# Altium schematic symbol library микроконтроллеры.SchLib: 46 symbols
Pins are listed as number, name and electrical type; pins without a type are passive.

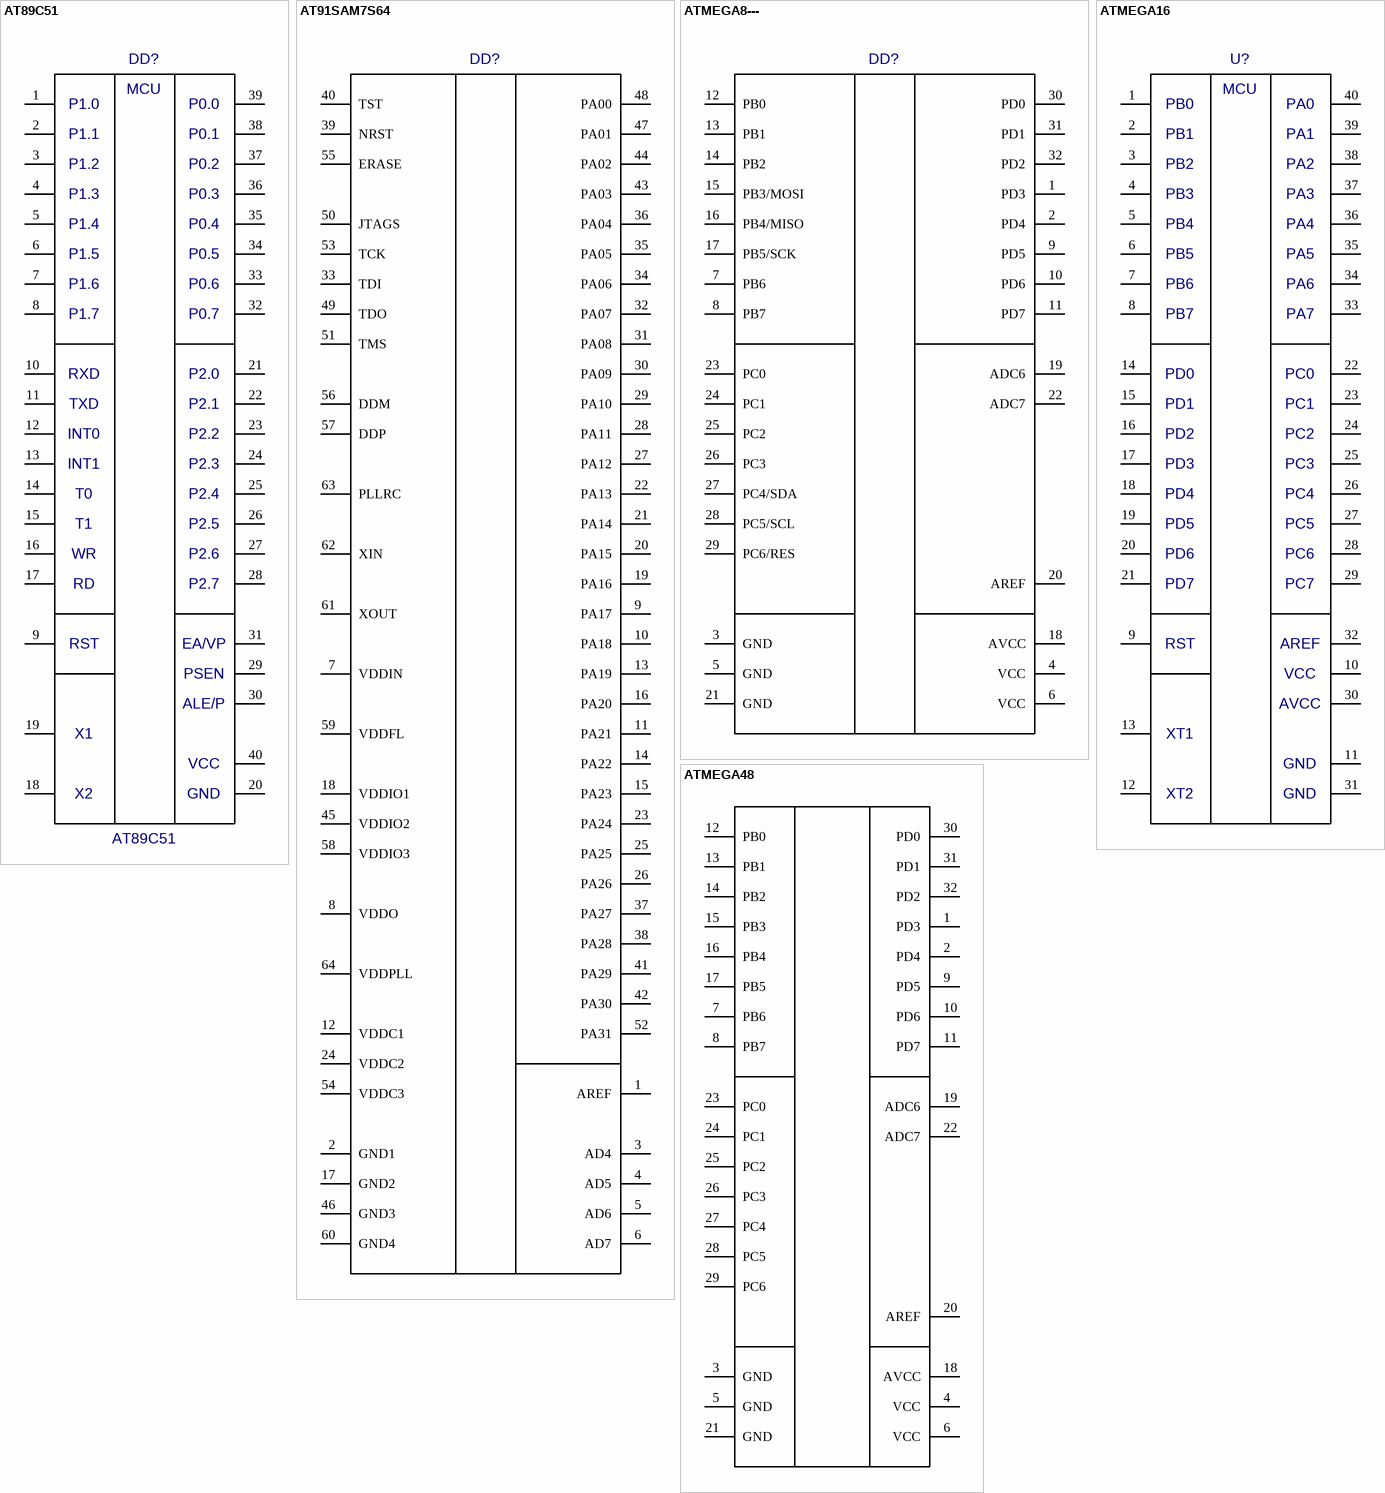
[diagram p0: symbols AT89C51 to ATMEGA48]

## AT89C51
designator DD?
Value: *
footprint DIP40
pins: 1 P1.0, 2 P1.1, 3 P1.2, 4 P1.3, 5 P1.4, 6 P1.5, 7 P1.6, 8 P1.7, 9 RST, 10 RxD, 11 TxD, 12 INT0, 13 INT1, 14 T0, 15 T1, 16 WR, 17 RD, 18 X2, 19 X1, 20 GND (power), 21 P2.0, 22 P2.1, 23 P2.2, 24 P2.3, 25 P2.4, 26 P2.5, 27 P2.6, 28 P2.7, 29 PSEN, 30 ALE, 31 EA/VP, 32 P0.7, 33 P0.6, 34 P0.5, 35 P0.4, 36 P0.3, 37 P0.2, 38 P0.1, 39 P0.0, 40 VCC (power)
text: MCU; RXD; TXD; ALE/P

## AT91SAM7S64
designator DD?  (value not drawn)
Value: *
footprint LQFP64
pins: 1 AREF, 2 GND1, 3 AD4, 4 AD5, 5 AD6, 6 AD7, 7 VDDIN, 8 VDDO, 9 PA17, 10 PA18, 11 PA21, 12 VDDC1, 13 PA19, 14 PA22, 15 PA23, 16 PA20, 17 GND2, 18 VDDIO1, 19 PA16, 20 PA15, 21 PA14, 22 PA13, 23 PA24, 24 VDDC2, 25 PA25, 26 PA26, 27 PA12, 28 PA11, 29 PA10, 30 PA09, 31 PA08, 32 PA07, 33 TDI, 34 PA06, 35 PA05, 36 PA04, 37 PA27, 38 PA28, 39 NRST, 40 TST, 41 PA29, 42 PA30, 43 PA03, 44 PA02, 45 VDDIO2, 46 GND3, 47 PA01, 48 PA00, 49 TDO, 50 JTAGS, 51 TMS, 52 PA31, 53 TCK, 54 VDDC3, 55 ERASE, 56 DDM, 57 DDP, 58 VDDIO3, 59 VDDFL, 60 GND4, 61 XOUT, 62 XIN, 63 PLLRC, 64 VDDPLL

## ATMEGA8---
designator DD?  (value not drawn)
Value: {Value}
footprint LQFP32-MEGA-STM
pins: 1 PD3, 2 PD4, 3 GND, 4 VCC, 5 GND, 6 VCC, 7 PB6, 8 PB7, 9 PD5, 10 PD6, 11 PD7, 12 PB0, 13 PB1, 14 PB2, 15 PB3/MOSI, 16 PB4/MISO, 17 PB5/SCK, 18 AVCC, 19 ADC6, 20 AREF, 21 GND, 22 ADC7, 23 PC0, 24 PC1, 25 PC2, 26 PC3, 27 PC4/SDA, 28 PC5/SCL, 29 PC6/RES, 30 PD0, 31 PD1, 32 PD2

## ATMEGA16
designator U?  (value not drawn)
Value: *
footprint DIP40
pins: 1 P1.0, 2 P1.1, 3 P1.2, 4 P1.3, 5 P1.4, 6 P1.5, 7 P1.6, 8 P1.7, 9 RST, 10 PSEN, 11 VCC, 12 X2, 13 X1, 14 T0, 15 T1, 16 WR, 17 RD, 18 RxD, 19 TxD, 20 INT0, 21 INT1, 22 P2.1, 23 P2.2, 24 P2.3, 25 P2.4, 26 P2.5, 27 P2.6, 28 P2.7, 29 P2.0, 30 ALE, 31 GND, 32 EA/VP, 33 P0.6, 34 P0.7, 35 P0.5, 36 P0.4, 37 P0.3, 38 P0.2, 39 P0.1, 40 P0.0
text: MCU; PB0; PA0; PB1; PA1; PB2; PA2; PB3; PA3; PB4; PA4; PB5; PA5; PB6; PA6; PB7; PA7; PD0; PC0; PD1; PC1; PD2; PC2; PD3; PC3; PD4; PC4; PD5; PC5; PD6; PC6; PD7; PC7; AREF; AVCC; XT1; XT2

## ATMEGA48
designator DD?  (value not drawn)
Value: *
footprint 32A
pins: 1 PD3, 2 PD4, 3 GND, 4 VCC, 5 GND, 6 VCC, 7 PB6, 8 PB7, 9 PD5, 10 PD6, 11 PD7, 12 PB0, 13 PB1, 14 PB2, 15 PB3, 16 PB4, 17 PB5, 18 AVCC, 19 ADC6, 20 AREF, 21 GND, 22 ADC7, 23 PC0, 24 PC1, 25 PC2, 26 PC3, 27 PC4, 28 PC5, 29 PC6, 30 PD0, 31 PD1, 32 PD2

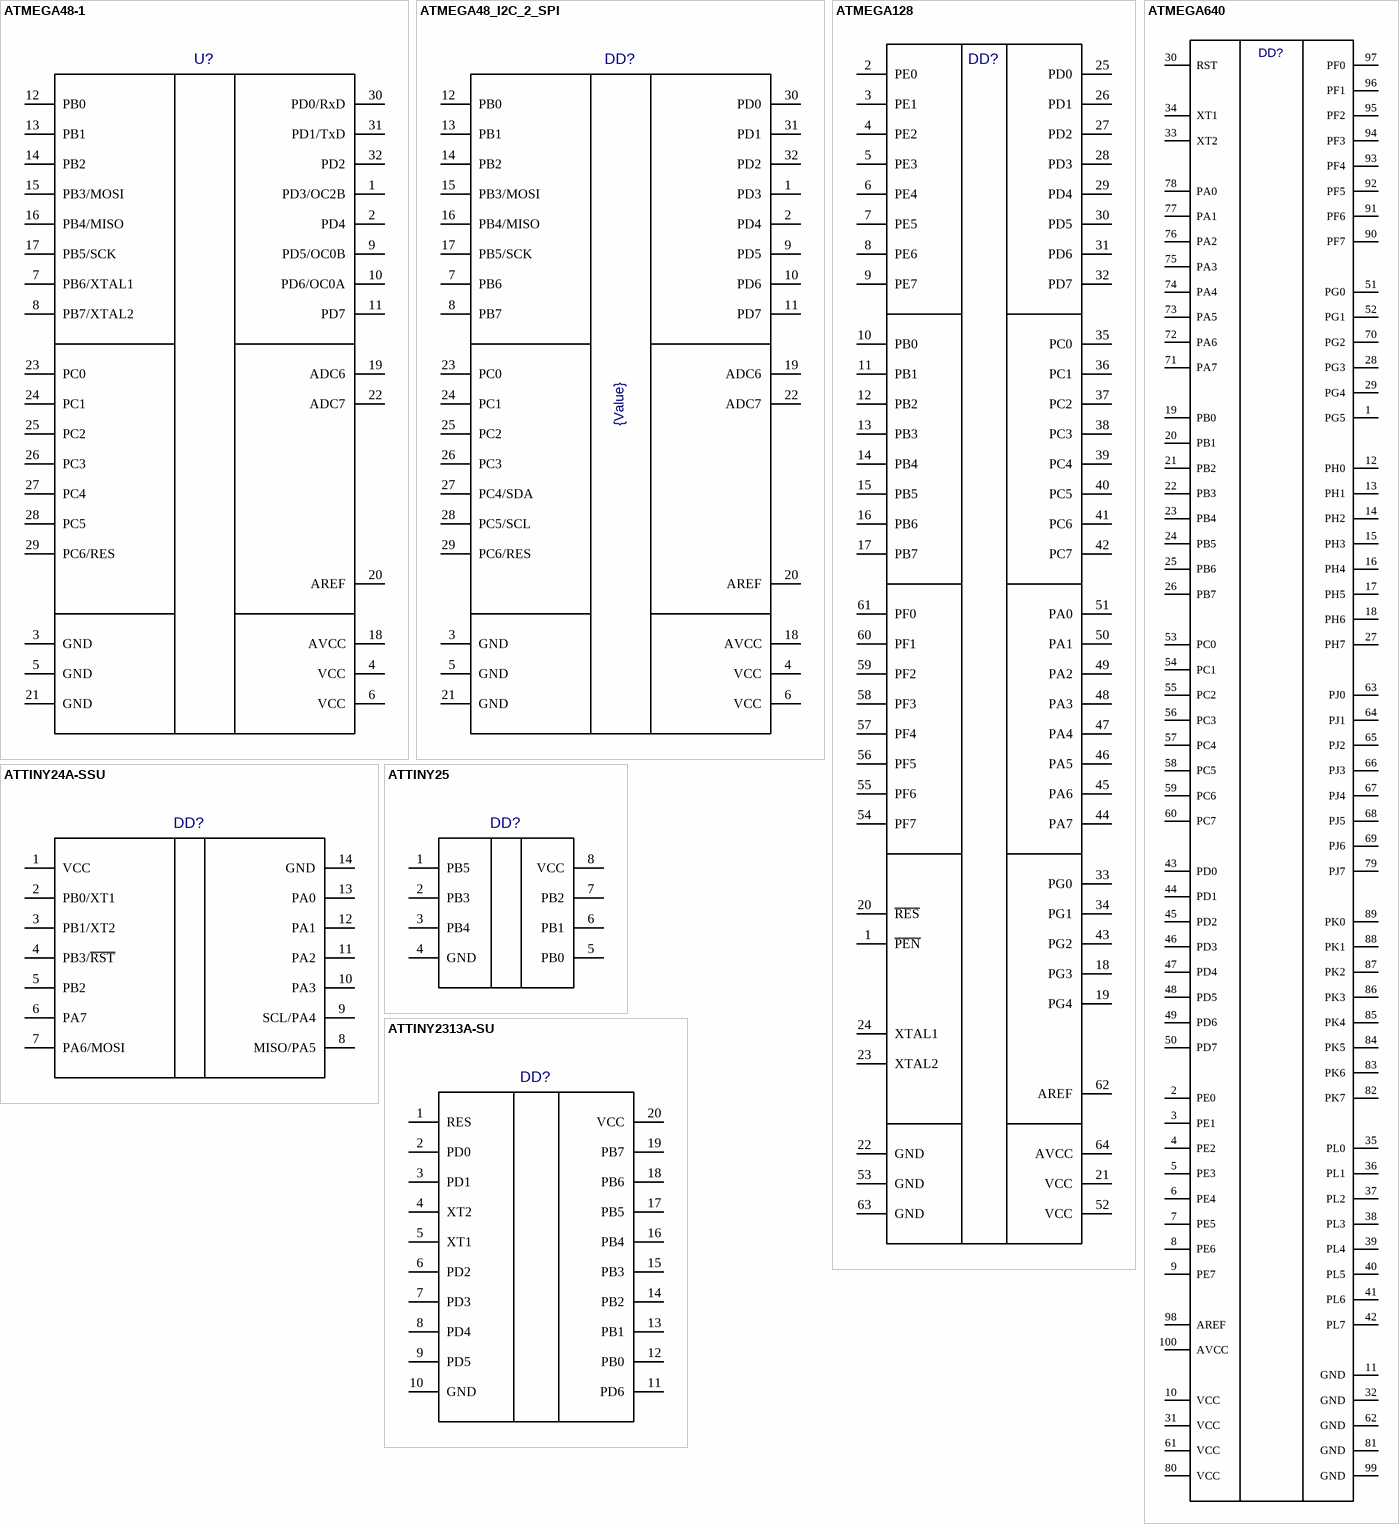
[diagram p1: symbols ATMEGA48-1 to ATTINY2313A-SU]

## ATMEGA48-1
designator U?  (value not drawn)
Value: *
footprint 32A
pins: 1 PD3/OC2B, 2 PD4, 3 GND, 4 VCC, 5 GND, 6 VCC, 7 PB6/XTAL1, 8 PB7/XTAL2, 9 PD5/OC0B, 10 PD6/OC0A, 11 PD7, 12 PB0, 13 PB1, 14 PB2, 15 PB3/MOSI, 16 PB4/MISO, 17 PB5/SCK, 18 AVCC, 19 ADC6, 20 AREF, 21 GND, 22 ADC7, 23 PC0, 24 PC1, 25 PC2, 26 PC3, 27 PC4, 28 PC5, 29 PC6/RES, 30 PD0/RxD, 31 PD1/TxD, 32 PD2

## ATMEGA48_I2C_2_SPI
designator DD?  value {Value}  (hidden comment: ATMEGA48_I2C_2_SPI)
footprint LQFP32
pins: 1 PD3, 2 PD4, 3 GND, 4 VCC, 5 GND, 6 VCC, 7 PB6, 8 PB7, 9 PD5, 10 PD6, 11 PD7, 12 PB0, 13 PB1, 14 PB2, 15 PB3/MOSI, 16 PB4/MISO, 17 PB5/SCK, 18 AVCC, 19 ADC6, 20 AREF, 21 GND, 22 ADC7, 23 PC0, 24 PC1, 25 PC2, 26 PC3, 27 PC4/SDA, 28 PC5/SCL, 29 PC6/RES, 30 PD0, 31 PD1, 32 PD2

## ATMEGA128
designator DD?  (value not drawn)
Value: *
footprint TQFP64
pins: 1 ~{PEN}, 2 PE0, 3 PE1, 4 PE2, 5 PE3, 6 PE4, 7 PE5, 8 PE6, 9 PE7, 10 PB0, 11 PB1, 12 PB2, 13 PB3, 14 PB4, 15 PB5, 16 PB6, 17 PB7, 18 PG3, 19 PG4, 20 ~{RES}, 21 VCC, 22 GND, 23 XTAL2, 24 XTAL1, 25 PD0, 26 PD1, 27 PD2, 28 PD3, 29 PD4, 30 PD5, 31 PD6, 32 PD7, 33 PG0, 34 PG1, 35 PC0, 36 PC1, 37 PC2, 38 PC3, 39 PC4, 40 PC5, 41 PC6, 42 PC7, 43 PG2, 44 PA7, 45 PA6, 46 PA5, 47 PA4, 48 PA3, 49 PA2, 50 PA1, 51 PA0, 52 VCC, 53 GND, 54 PF7, 55 PF6, 56 PF5, 57 PF4, 58 PF3, 59 PF2, 60 PF1, 61 PF0, 62 AREF, 63 GND, 64 AVCC

## ATMEGA640
designator DD?  (value not drawn)
Value: *
footprint ATMEGA640
pins: 1 PG5, 2 PE0, 3 PE1, 4 PE2, 5 PE3, 6 PE4, 7 PE5, 8 PE6, 9 PE7, 10 VCC, 11 GND, 12 PH0, 13 PH1, 14 PH2, 15 PH3, 16 PH4, 17 PH5, 18 PH6, 19 PB0, 20 PB1, 21 PB2, 22 PB3, 23 PB4, 24 PB5, 25 PB6, 26 PB7, 27 PH7, 28 PG3, 29 PG4, 30 RST, 31 VCC, 32 GND, 33 XT2, 34 XT1, 35 PL0, 36 PL1, 37 PL2, 38 PL3, 39 PL4, 40 PL5, 41 PL6, 42 PL7, 43 PD0, 44 PD1, 45 PD2, 46 PD3, 47 PD4, 48 PD5, 49 PD6, 50 PD7, 51 PG0, 52 PG1, 53 PC0, 54 PC1, 55 PC2, 56 PC3, 57 PC4, 58 PC5, 59 PC6, 60 PC7, 61 VCC, 62 GND, 63 PJ0, 64 PJ1, 65 PJ2, 66 PJ3, 67 PJ4, 68 PJ5, 69 PJ6, 70 PG2, 71 PA7, 72 PA6, 73 PA5, 74 PA4, 75 PA3, 76 PA2, 77 PA1, 78 PA0, 79 PJ7, 80 VCC, 81 GND, 82 PK7, 83 PK6, 84 PK5, 85 PK4, 86 PK3, 87 PK2, 88 PK1, 89 PK0, 90 PF7, 91 PF6, 92 PF5, 93 PF4, 94 PF3, 95 PF2, 96 PF1, 97 PF0, 98 AREF, 99 GND, 100 AVCC

## ATTINY24A-SSU
designator DD?  (value not drawn)
Value: *
footprint SO14
pins: 1 VCC, 2 PB0/XT1, 3 PB1/XT2, 4 PB3/~{RST}, 5 PB2, 6 PA7, 7 PA6/MOSI, 8 MISO/PA5, 9 SCL/PA4, 10 PA3, 11 PA2, 12 PA1, 13 PA0, 14 GND

## ATTINY25
designator DD?  (value not drawn)
Value: *
footprint SO8 WIDE
pins: 1 PB5, 2 PB3, 3 PB4, 4 GND, 5 PB0, 6 PB1, 7 PB2, 8 VCC

## ATTINY2313A-SU
designator DD?  (value not drawn)
Value: *
footprint SOL20
pins: 1 RES, 2 PD0, 3 PD1, 4 XT2, 5 XT1, 6 PD2, 7 PD3, 8 PD4, 9 PD5, 10 GND, 11 PD6, 12 PB0, 13 PB1, 14 PB2, 15 PB3, 16 PB4, 17 PB5, 18 PB6, 19 PB7, 20 VCC

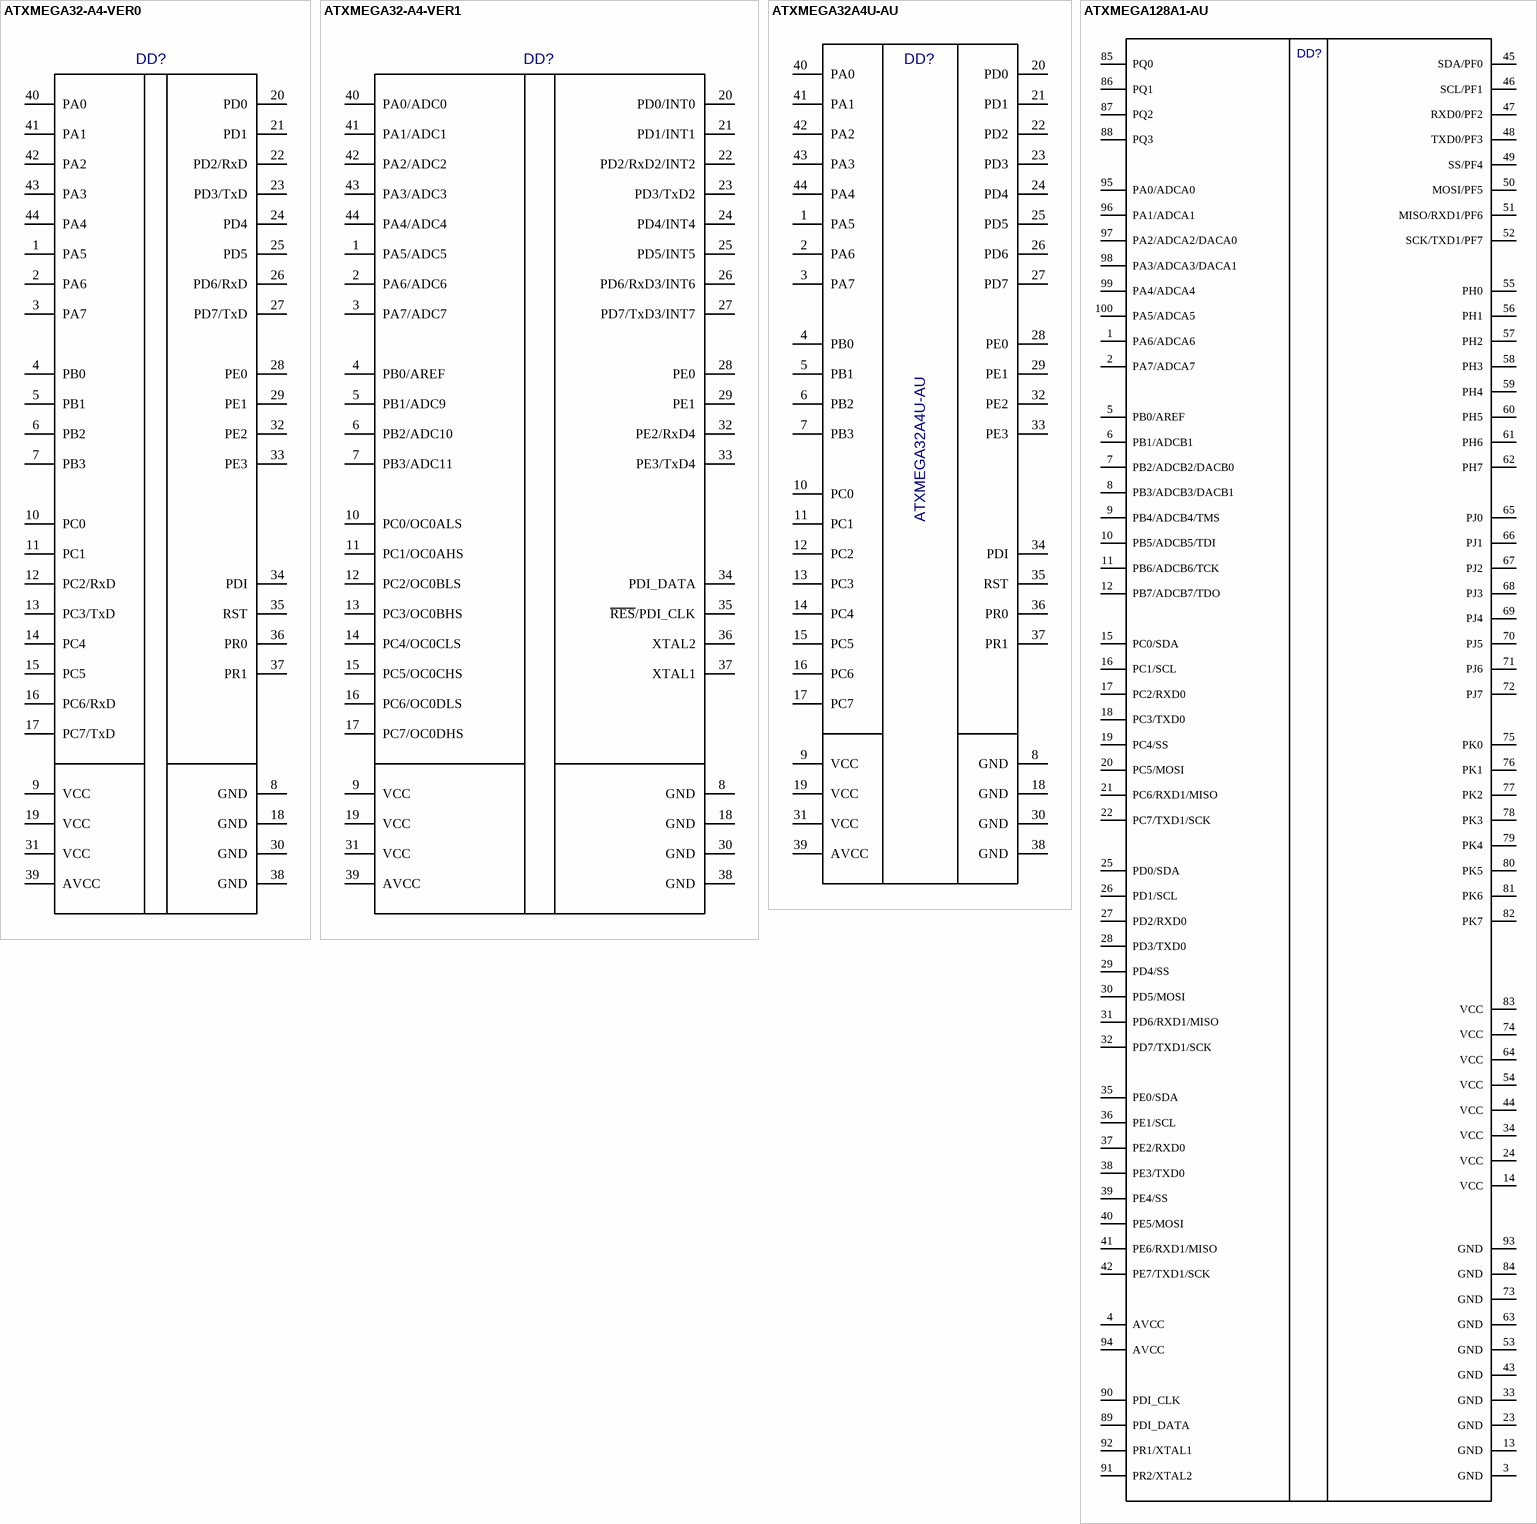
[diagram p2: symbols ATXMEGA32-A4-VER0 to ATXMEGA128A1-AU]

## ATXMEGA32-A4-VER0
designator DD?  (value not drawn)
Value: *
footprint ATXMEGA32-A4
pins: 1 PA5, 2 PA6, 3 PA7, 4 PB0, 5 PB1, 6 PB2, 7 PB3, 8 GND, 9 VCC, 10 PC0, 11 PC1, 12 PC2/RxD, 13 PC3/TxD, 14 PC4, 15 PC5, 16 PC6/RxD, 17 PC7/TxD, 18 GND, 19 VCC, 20 PD0, 21 PD1, 22 PD2/RxD, 23 PD3/TxD, 24 PD4, 25 PD5, 26 PD6/RxD, 27 PD7/TxD, 28 PE0, 29 PE1, 30 GND, 31 VCC, 32 PE2, 33 PE3, 34 PDI, 35 RST, 36 PR0, 37 PR1, 38 GND, 39 AVCC, 40 PA0, 41 PA1, 42 PA2, 43 PA3, 44 PA4

## ATXMEGA32-A4-VER1
designator DD?  (value not drawn)
Value: {Value}
footprint ATXMEGA32-A4
pins: 1 PA5/ADC5, 2 PA6/ADC6, 3 PA7/ADC7, 4 PB0/AREF, 5 PB1/ADC9, 6 PB2/ADC10, 7 PB3/ADC11, 8 GND, 9 VCC, 10 PC0/OC0ALS, 11 PC1/OC0AHS, 12 PC2/OC0BLS, 13 PC3/OC0BHS, 14 PC4/OC0CLS, 15 PC5/OC0CHS, 16 PC6/OC0DLS, 17 PC7/OC0DHS, 18 GND, 19 VCC, 20 PD0/INT0, 21 PD1/INT1, 22 PD2/RxD2/INT2, 23 PD3/TxD2, 24 PD4/INT4, 25 PD5/INT5, 26 PD6/RxD3/INT6, 27 PD7/TxD3/INT7, 28 PE0, 29 PE1, 30 GND, 31 VCC, 32 PE2/RxD4, 33 PE3/TxD4, 34 PDI_DATA, 35 ~{RES}/PDI_CLK, 36 XTAL2, 37 XTAL1, 38 GND, 39 AVCC, 40 PA0/ADC0, 41 PA1/ADC1, 42 PA2/ADC2, 43 PA3/ADC3, 44 PA4/ADC4

## ATXMEGA32A4U-AU
designator DD?
Value: *
footprint ATXMEGA32-A4
pins: 1 PA5, 2 PA6, 3 PA7, 4 PB0, 5 PB1, 6 PB2, 7 PB3, 8 GND, 9 VCC, 10 PC0, 11 PC1, 12 PC2, 13 PC3, 14 PC4, 15 PC5, 16 PC6, 17 PC7, 18 GND, 19 VCC, 20 PD0, 21 PD1, 22 PD2, 23 PD3, 24 PD4, 25 PD5, 26 PD6, 27 PD7, 28 PE0, 29 PE1, 30 GND, 31 VCC, 32 PE2, 33 PE3, 34 PDI, 35 RST, 36 PR0, 37 PR1, 38 GND, 39 AVCC, 40 PA0, 41 PA1, 42 PA2, 43 PA3, 44 PA4

## ATXMEGA128A1-AU
designator DD?  (value not drawn)
Value: *
footprint ATXMEGA128A1-AU
pins: 1 PA6/ADCA6, 2 PA7/ADCA7, 3 GND, 4 AVCC, 5 PB0/AREF, 6 PB1/ADCB1, 7 PB2/ADCB2/DACB0, 8 PB3/ADCB3/DACB1, 9 PB4/ADCB4/TMS, 10 PB5/ADCB5/TDI, 11 PB6/ADCB6/TCK, 12 PB7/ADCB7/TDO, 13 GND, 14 VCC, 15 PC0/SDA, 16 PC1/SCL, 17 PC2/RXD0, 18 PC3/TXD0, 19 PC4/SS, 20 PC5/MOSI, 21 PC6/RXD1/MISO, 22 PC7/TXD1/SCK, 23 GND, 24 VCC, 25 PD0/SDA, 26 PD1/SCL, 27 PD2/RXD0, 28 PD3/TXD0, 29 PD4/SS, 30 PD5/MOSI, 31 PD6/RXD1/MISO, 32 PD7/TXD1/SCK, 33 GND, 34 VCC, 35 PE0/SDA, 36 PE1/SCL, 37 PE2/RXD0, 38 PE3/TXD0, 39 PE4/SS, 40 PE5/MOSI, 41 PE6/RXD1/MISO, 42 PE7/TXD1/SCK, 43 GND, 44 VCC, 45 SDA/PF0, 46 SCL/PF1, 47 RXD0/PF2, 48 TXD0/PF3, 49 SS/PF4, 50 MOSI/PF5, 51 MISO/RXD1/PF6, 52 SCK/TXD1/PF7, 53 GND, 54 VCC, 55 PH0, 56 PH1, 57 PH2, 58 PH3, 59 PH4, 60 PH5, 61 PH6, 62 PH7, 63 GND, 64 VCC, 65 PJ0, 66 PJ1, 67 PJ2, 68 PJ3, 69 PJ4, 70 PJ5, 71 PJ6, 72 PJ7, 73 GND, 74 VCC, 75 PK0, 76 PK1, 77 PK2, 78 PK3, 79 PK4, 80 PK5, 81 PK6, 82 PK7, 83 VCC, 84 GND, 85 PQ0, 86 PQ1, 87 PQ2, 88 PQ3, 89 PDI_DATA, 90 PDI_CLK, 91 PR2/XTAL2, 92 PR1/XTAL1, 93 GND, 94 AVCC, 95 PA0/ADCA0, 96 PA1/ADCA1, 97 PA2/ADCA2/DACA0, 98 PA3/ADCA3/DACA1, 99 PA4/ADCA4, 100 PA5/ADCA5

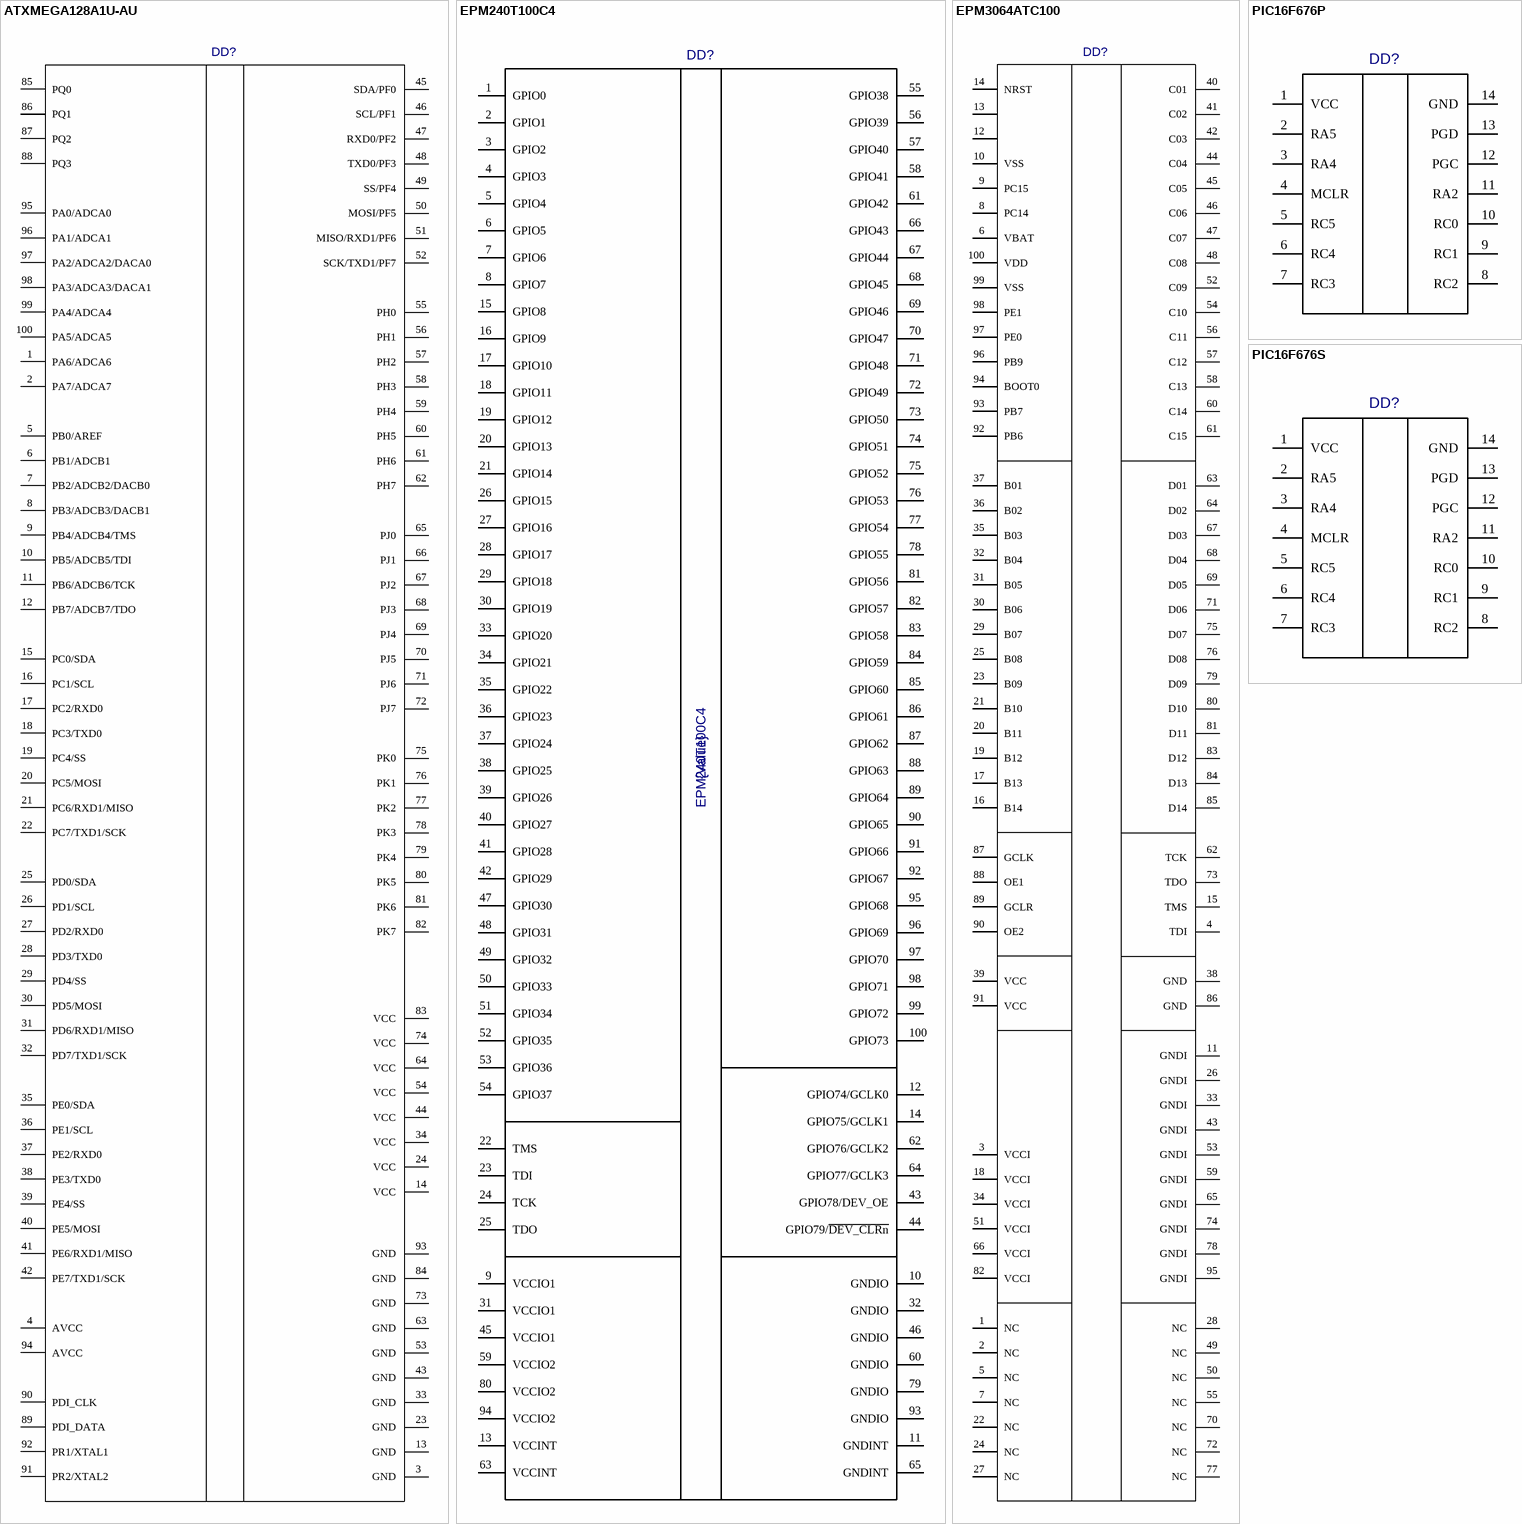
[diagram p3: symbols ATXMEGA128A1U-AU to PIC16F676S]

## ATXMEGA128A1U-AU
designator DD?  (value not drawn)
Value: *
footprint TQFP100
pins: 1 PA6/ADCA6, 2 PA7/ADCA7, 3 GND, 4 AVCC, 5 PB0/AREF, 6 PB1/ADCB1, 7 PB2/ADCB2/DACB0, 8 PB3/ADCB3/DACB1, 9 PB4/ADCB4/TMS, 10 PB5/ADCB5/TDI, 11 PB6/ADCB6/TCK, 12 PB7/ADCB7/TDO, 13 GND, 14 VCC, 15 PC0/SDA, 16 PC1/SCL, 17 PC2/RXD0, 18 PC3/TXD0, 19 PC4/SS, 20 PC5/MOSI, 21 PC6/RXD1/MISO, 22 PC7/TXD1/SCK, 23 GND, 24 VCC, 25 PD0/SDA, 26 PD1/SCL, 27 PD2/RXD0, 28 PD3/TXD0, 29 PD4/SS, 30 PD5/MOSI, 31 PD6/RXD1/MISO, 32 PD7/TXD1/SCK, 33 GND, 34 VCC, 35 PE0/SDA, 36 PE1/SCL, 37 PE2/RXD0, 38 PE3/TXD0, 39 PE4/SS, 40 PE5/MOSI, 41 PE6/RXD1/MISO, 42 PE7/TXD1/SCK, 43 GND, 44 VCC, 45 SDA/PF0, 46 SCL/PF1, 47 RXD0/PF2, 48 TXD0/PF3, 49 SS/PF4, 50 MOSI/PF5, 51 MISO/RXD1/PF6, 52 SCK/TXD1/PF7, 53 GND, 54 VCC, 55 PH0, 56 PH1, 57 PH2, 58 PH3, 59 PH4, 60 PH5, 61 PH6, 62 PH7, 63 GND, 64 VCC, 65 PJ0, 66 PJ1, 67 PJ2, 68 PJ3, 69 PJ4, 70 PJ5, 71 PJ6, 72 PJ7, 73 GND, 74 VCC, 75 PK0, 76 PK1, 77 PK2, 78 PK3, 79 PK4, 80 PK5, 81 PK6, 82 PK7, 83 VCC, 84 GND, 85 PQ0, 86 PQ1, 87 PQ2, 88 PQ3, 89 PDI_DATA, 90 PDI_CLK, 91 PR2/XTAL2, 92 PR1/XTAL1, 93 GND, 94 AVCC, 95 PA0/ADCA0, 96 PA1/ADCA1, 97 PA2/ADCA2/DACA0, 98 PA3/ADCA3/DACA1, 99 PA4/ADCA4, 100 PA5/ADCA5

## EPM240T100C4
designator DD?  value {Value}
footprint TQFP100
pins: 1 GPIO0, 2 GPIO1, 3 GPIO2, 4 GPIO3, 5 GPIO4, 6 GPIO5, 7 GPIO6, 8 GPIO7, 9 VCCIO1, 10 GNDIO, 11 GNDINT, 12 GPIO74/GCLK0, 13 VCCINT, 14 GPIO75/GCLK1, 15 GPIO8, 16 GPIO9, 17 GPIO10, 18 GPIO11, 19 GPIO12, 20 GPIO13, 21 GPIO14, 22 TMS, 23 TDI, 24 TCK, 25 TDO, 26 GPIO15, 27 GPIO16, 28 GPIO17, 29 GPIO18, 30 GPIO19, 31 VCCIO1, 32 GNDIO, 33 GPIO20, 34 GPIO21, 35 GPIO22, 36 GPIO23, 37 GPIO24, 38 GPIO25, 39 GPIO26, 40 GPIO27, 41 GPIO28, 42 GPIO29, 43 GPIO78/DEV_OE, 44 GPIO79/~{DEV_CLRn}, 45 VCCIO1, 46 GNDIO, 47 GPIO30, 48 GPIO31, 49 GPIO32, 50 GPIO33, 51 GPIO34, 52 GPIO35, 53 GPIO36, 54 GPIO37, 55 GPIO38, 56 GPIO39, 57 GPIO40, 58 GPIO41, 59 VCCIO2, 60 GNDIO, 61 GPIO42, 62 GPIO76/GCLK2, 63 VCCINT, 64 GPIO77/GCLK3, 65 GNDINT, 66 GPIO43, 67 GPIO44, 68 GPIO45, 69 GPIO46, 70 GPIO47, 71 GPIO48, 72 GPIO49, 73 GPIO50, 74 GPIO51, 75 GPIO52, 76 GPIO53, 77 GPIO54, 78 GPIO55, 79 GNDIO, 80 VCCIO2, 81 GPIO56, 82 GPIO57, 83 GPIO58, 84 GPIO59, 85 GPIO60, 86 GPIO61, 87 GPIO62, 88 GPIO63, 89 GPIO64, 90 GPIO65, 91 GPIO66, 92 GPIO67, 93 GNDIO, 94 VCCIO2, 95 GPIO68, 96 GPIO69, 97 GPIO70, 98 GPIO71, 99 GPIO72, 100 GPIO73

## EPM3064ATC100
designator DD?  (value not drawn)
Value: *
footprint TQFP100
pins: 1 NC, 2 NC, 3 VCCI, 4 TDI, 5 NC, 6 VBAT, 7 NC, 8 PC14, 9 PC15, 10 VSS, 11 GNDI, 12, 13, 14 NRST, 15 TMS, 16 B14, 17 B13, 18 VCCI, 19 B12, 20 B11, 21 B10, 22 NC, 23 B09, 24 NC, 25 B08, 26 GNDI, 27 NC, 28 NC, 29 B07, 30 B06, 31 B05, 32 B04, 33 GNDI, 34 VCCI, 35 B03, 36 B02, 37 B01, 38 GND, 39 VCC, 40 C01, 41 C02, 42 C03, 43 GNDI, 44 C04, 45 C05, 46 C06, 47 C07, 48 C08, 49 NC, 50 NC, 51 VCCI, 52 C09, 53 GNDI, 54 C10, 55 NC, 56 C11, 57 C12, 58 C13, 59 GNDI, 60 C14, 61 C15, 62 TCK, 63 D01, 64 D02, 65 GNDI, 66 VCCI, 67 D03, 68 D04, 69 D05, 70 NC, 71 D06, 72 NC, 73 TDO, 74 GNDI, 75 D07, 76 D08, 77 NC, 78 GNDI, 79 D09, 80 D10, 81 D11, 82 VCCI, 83 D12, 84 D13, 85 D14, 86 GND, 87 GCLK, 88 OE1, 89 GCLR, 90 OE2, 91 VCC, 92 PB6, 93 PB7, 94 BOOT0, 95 GNDI, 96 PB9, 97 PE0, 98 PE1, 99 VSS, 100 VDD

## PIC16F676P
designator DD?  (value not drawn)
Value: *
footprint DIP14
pins: 1 VCC, 2 RA5, 3 RA4, 4 MCLR, 5 RC5, 6 RC4, 7 RC3, 8 RC2, 9 RC1, 10 RC0, 11 RA2, 12 PGC, 13 PGD, 14 GND

## PIC16F676S
designator DD?  (value not drawn)
Value: *
footprint SO14
pins: 1 VCC, 2 RA5, 3 RA4, 4 MCLR, 5 RC5, 6 RC4, 7 RC3, 8 RC2, 9 RC1, 10 RC0, 11 RA2, 12 PGC, 13 PGD, 14 GND

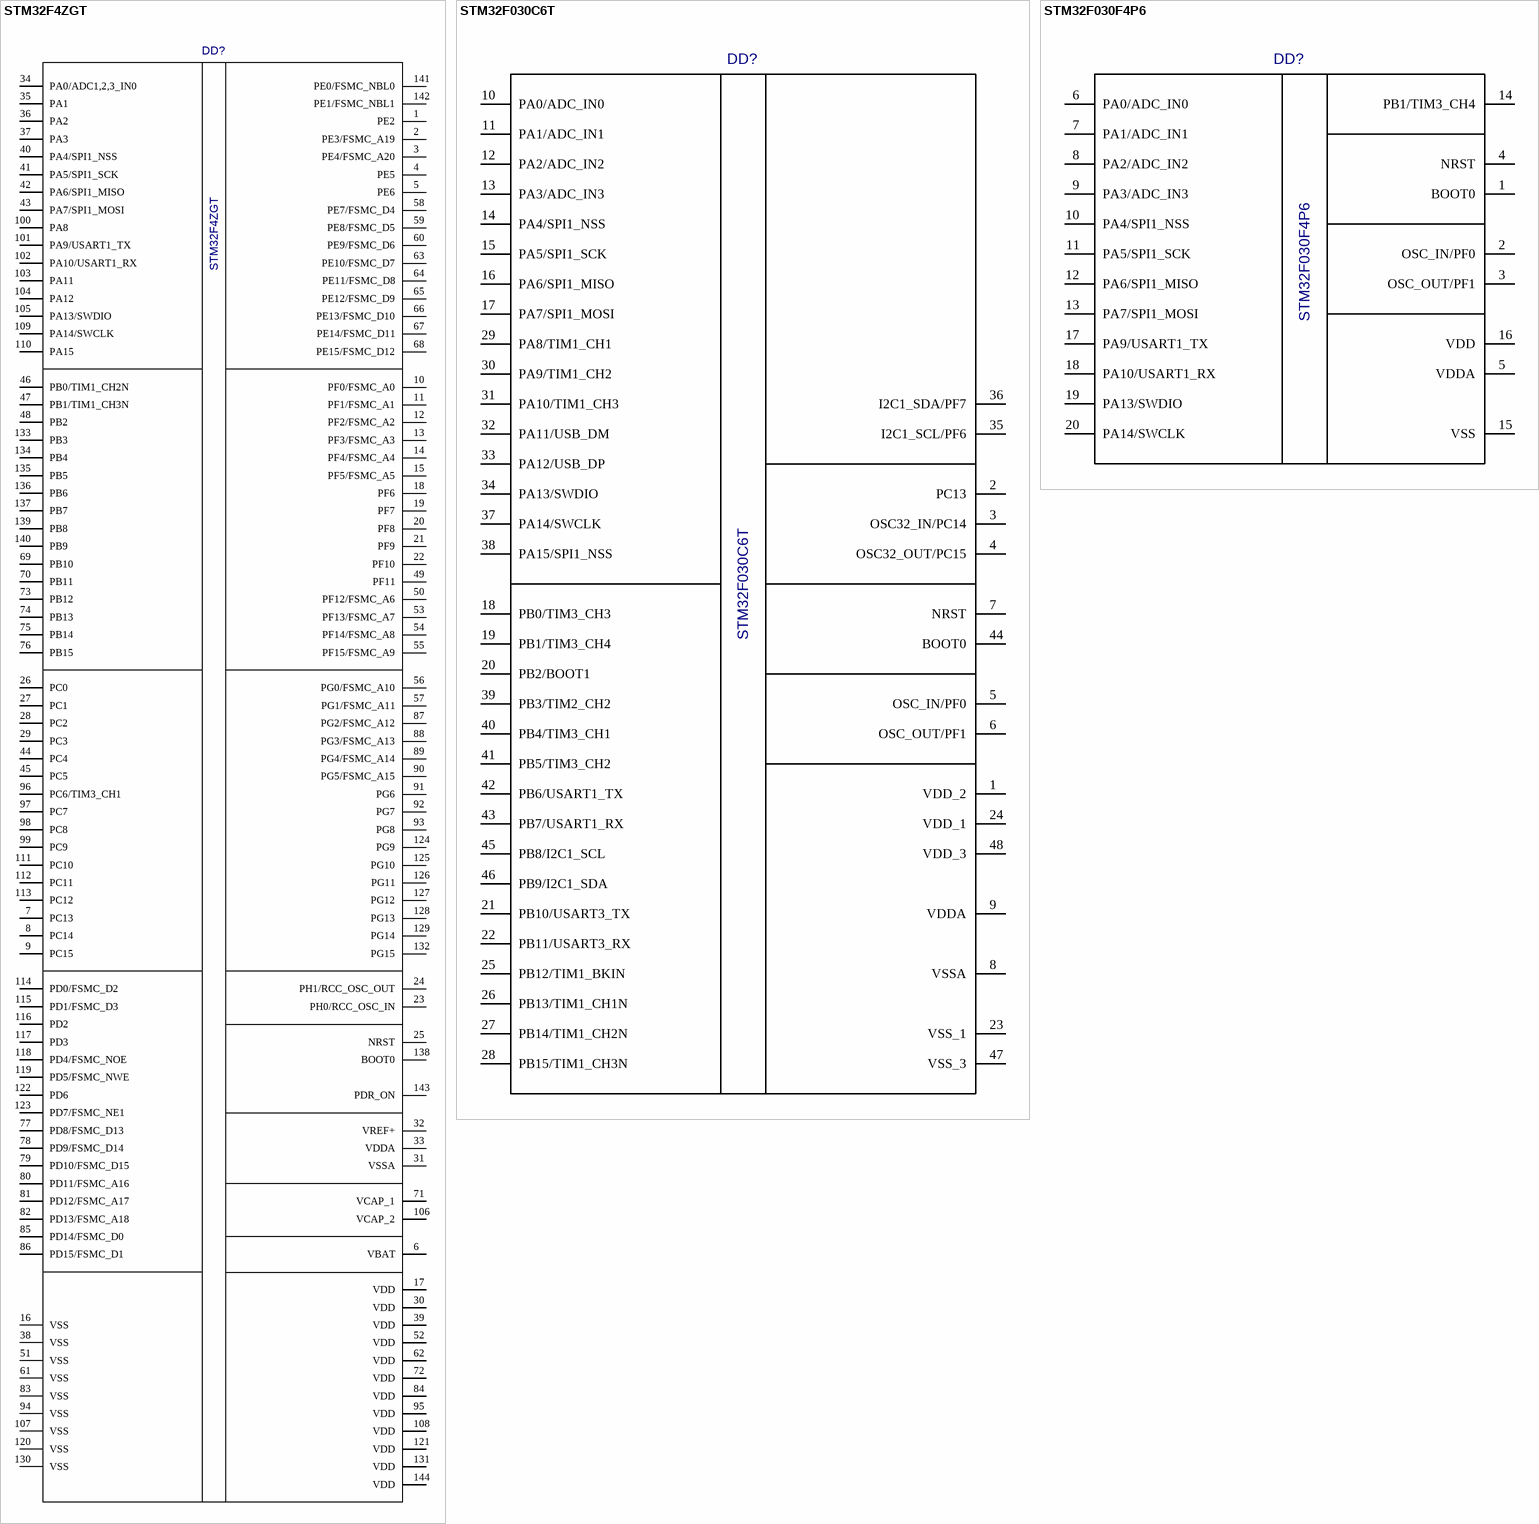
[diagram p4: symbols STM32F4ZGT to STM32F030F4P6]

## STM32F4ZGT
designator DD?
Value: *
pins: 1 PE2, 2 PE3/FSMC_A19, 3 PE4/FSMC_A20, 4 PE5, 5 PE6, 6 VBAT, 7 PC13, 8 PC14, 9 PC15, 10 PF0/FSMC_A0, 11 PF1/FSMC_A1, 12 PF2/FSMC_A2, 13 PF3/FSMC_A3, 14 PF4/FSMC_A4, 15 PF5/FSMC_A5, 16 VSS, 17 VDD, 18 PF6, 19 PF7, 20 PF8, 21 PF9, 22 PF10, 23 PH0/RCC_OSC_IN, 24 PH1/RCC_OSC_OUT, 25 NRST, 26 PC0, 27 PC1, 28 PC2, 29 PC3, 30 VDD, 31 VSSA, 32 VREF+, 33 VDDA, 34 PA0/ADC1,2,3_IN0, 35 PA1, 36 PA2, 37 PA3, 38 VSS, 39 VDD, 40 PA4/SPI1_NSS, 41 PA5/SPI1_SCK, 42 PA6/SPI1_MISO, 43 PA7/SPI1_MOSI, 44 PC4, 45 PC5, 46 PB0/TIM1_CH2N, 47 PB1/TIM1_CH3N, 48 PB2, 49 PF11, 50 PF12/FSMC_A6, 51 VSS, 52 VDD, 53 PF13/FSMC_A7, 54 PF14/FSMC_A8, 55 PF15/FSMC_A9, 56 PG0/FSMC_A10, 57 PG1/FSMC_A11, 58 PE7/FSMC_D4, 59 PE8/FSMC_D5, 60 PE9/FSMC_D6, 61 VSS, 62 VDD, 63 PE10/FSMC_D7, 64 PE11/FSMC_D8, 65 PE12/FSMC_D9, 66 PE13/FSMC_D10, 67 PE14/FSMC_D11, 68 PE15/FSMC_D12, 69 PB10, 70 PB11, 71 VCAP_1, 72 VDD, 73 PB12, 74 PB13, 75 PB14, 76 PB15, 77 PD8/FSMC_D13, 78 PD9/FSMC_D14, 79 PD10/FSMC_D15, 80 PD11/FSMC_A16, 81 PD12/FSMC_A17, 82 PD13/FSMC_A18, 83 VSS, 84 VDD, 85 PD14/FSMC_D0, 86 PD15/FSMC_D1, 87 PG2/FSMC_A12, 88 PG3/FSMC_A13, 89 PG4/FSMC_A14, 90 PG5/FSMC_A15, 91 PG6, 92 PG7, 93 PG8, 94 VSS, 95 VDD, 96 PC6/TIM3_CH1, 97 PC7, 98 PC8, 99 PC9, 100 PA8, 101 PA9/USART1_TX, 102 PA10/USART1_RX, 103 PA11, 104 PA12, 105 PA13/SWDIO, 106 VCAP_2, 107 VSS, 108 VDD, 109 PA14/SWCLK, 110 PA15, 111 PC10, 112 PC11, 113 PC12, 114 PD0/FSMC_D2, 115 PD1/FSMC_D3, 116 PD2, 117 PD3, 118 PD4/FSMC_NOE, 119 PD5/FSMC_NWE, 120 VSS, 121 VDD, 122 PD6, 123 PD7/FSMC_NE1, 124 PG9, 125 PG10, 126 PG11, 127 PG12, 128 PG13, 129 PG14, 130 VSS, 131 VDD, 132 PG15, 133 PB3, 134 PB4, 135 PB5, 136 PB6, 137 PB7, 138 BOOT0, 139 PB8, 140 PB9, 141 PE0/FSMC_NBL0, 142 PE1/FSMC_NBL1, 143 PDR_ON, 144 VDD

## STM32F030C6T
designator DD?
Value: *
footprint LQFP48
pins: 1 VDD_2, 2 PC13, 3 OSC32_IN/PC14, 4 OSC32_OUT/PC15, 5 OSC_IN/PF0, 6 OSC_OUT/PF1, 7 NRST, 8 VSSA, 9 VDDA, 10 PA0/ADC_IN0, 11 PA1/ADC_IN1, 12 PA2/ADC_IN2, 13 PA3/ADC_IN3, 14 PA4/SPI1_NSS, 15 PA5/SPI1_SCK, 16 PA6/SPI1_MISO, 17 PA7/SPI1_MOSI, 18 PB0/TIM3_CH3, 19 PB1/TIM3_CH4, 20 PB2/BOOT1, 21 PB10/USART3_TX, 22 PB11/USART3_RX, 23 VSS_1, 24 VDD_1, 25 PB12/TIM1_BKIN, 26 PB13/TIM1_CH1N, 27 PB14/TIM1_CH2N, 28 PB15/TIM1_CH3N, 29 PA8/TIM1_CH1, 30 PA9/TIM1_CH2, 31 PA10/TIM1_CH3, 32 PA11/USB_DM, 33 PA12/USB_DP, 34 PA13/SWDIO, 35 I2C1_SCL/PF6, 36 I2C1_SDA/PF7, 37 PA14/SWCLK, 38 PA15/SPI1_NSS, 39 PB3/TIM2_CH2, 40 PB4/TIM3_CH1, 41 PB5/TIM3_CH2, 42 PB6/USART1_TX, 43 PB7/USART1_RX, 44 BOOT0, 45 PB8/I2C1_SCL, 46 PB9/I2C1_SDA, 47 VSS_3, 48 VDD_3

## STM32F030F4P6
designator DD?
Value: *
footprint TSSOP20
pins: 1 BOOT0, 2 OSC_IN/PF0, 3 OSC_OUT/PF1, 4 NRST, 5 VDDA, 6 PA0/ADC_IN0, 7 PA1/ADC_IN1, 8 PA2/ADC_IN2, 9 PA3/ADC_IN3, 10 PA4/SPI1_NSS, 11 PA5/SPI1_SCK, 12 PA6/SPI1_MISO, 13 PA7/SPI1_MOSI, 14 PB1/TIM3_CH4, 15 VSS, 16 VDD, 17 PA9/USART1_TX, 18 PA10/USART1_RX, 19 PA13/SWDIO, 20 PA14/SWCLK

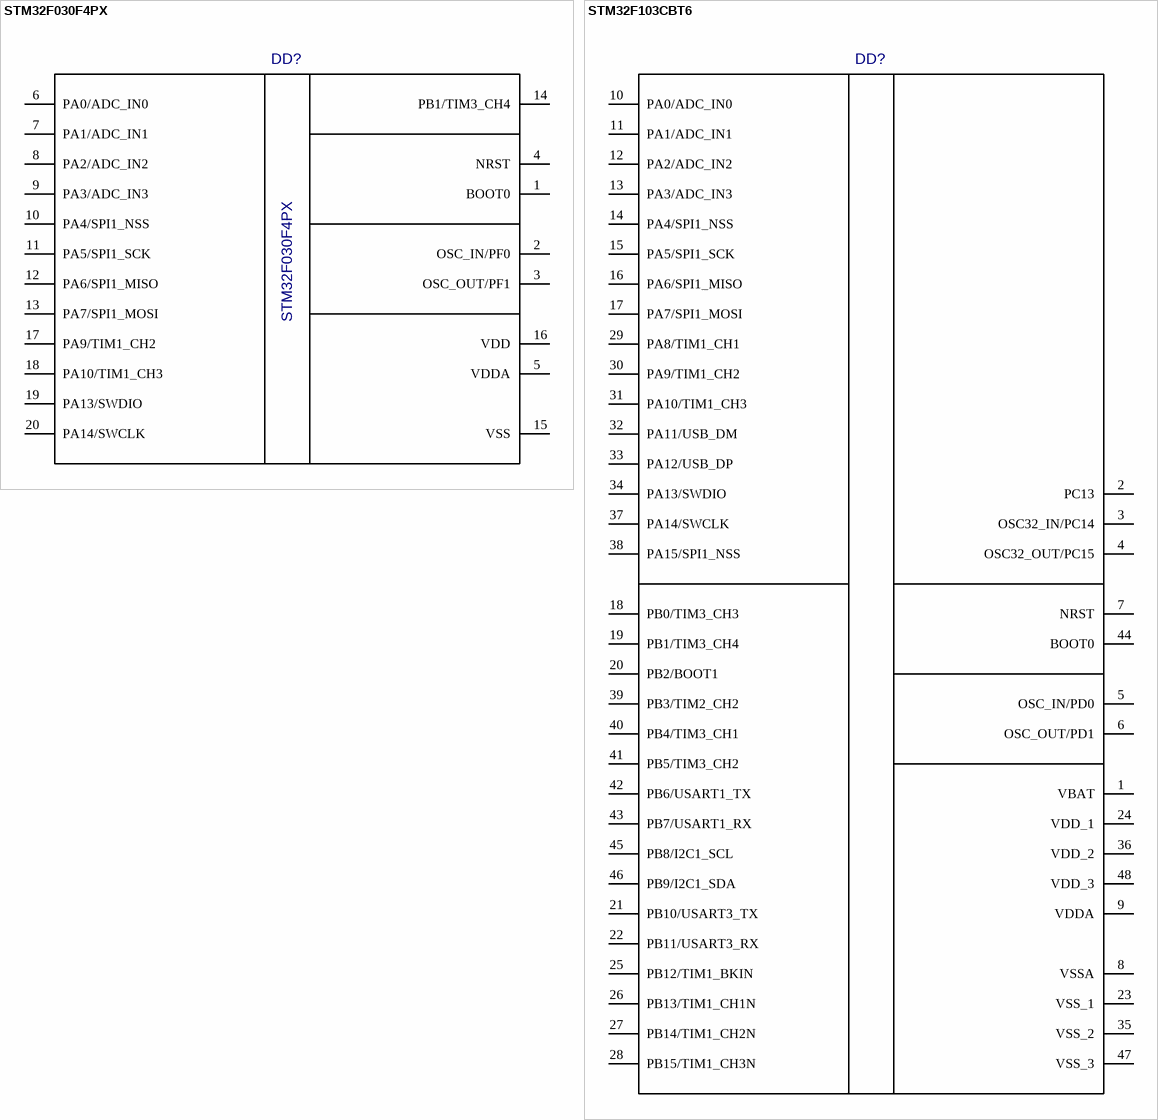
[diagram p5: symbols STM32F030F4PX to STM32F103CBT6]

## STM32F030F4PX
designator DD?
Value: {Value}
footprint TSSOP20
pins: 1 BOOT0, 2 OSC_IN/PF0, 3 OSC_OUT/PF1, 4 NRST, 5 VDDA, 6 PA0/ADC_IN0, 7 PA1/ADC_IN1, 8 PA2/ADC_IN2, 9 PA3/ADC_IN3, 10 PA4/SPI1_NSS, 11 PA5/SPI1_SCK, 12 PA6/SPI1_MISO, 13 PA7/SPI1_MOSI, 14 PB1/TIM3_CH4, 15 VSS, 16 VDD, 17 PA9/TIM1_CH2, 18 PA10/TIM1_CH3, 19 PA13/SWDIO, 20 PA14/SWCLK

## STM32F103CBT6
designator DD?  (value not drawn)
Value: {Value}
footprint LQFP48
pins: 1 VBAT, 2 PC13, 3 OSC32_IN/PC14, 4 OSC32_OUT/PC15, 5 OSC_IN/PD0, 6 OSC_OUT/PD1, 7 NRST, 8 VSSA, 9 VDDA, 10 PA0/ADC_IN0, 11 PA1/ADC_IN1, 12 PA2/ADC_IN2, 13 PA3/ADC_IN3, 14 PA4/SPI1_NSS, 15 PA5/SPI1_SCK, 16 PA6/SPI1_MISO, 17 PA7/SPI1_MOSI, 18 PB0/TIM3_CH3, 19 PB1/TIM3_CH4, 20 PB2/BOOT1, 21 PB10/USART3_TX, 22 PB11/USART3_RX, 23 VSS_1, 24 VDD_1, 25 PB12/TIM1_BKIN, 26 PB13/TIM1_CH1N, 27 PB14/TIM1_CH2N, 28 PB15/TIM1_CH3N, 29 PA8/TIM1_CH1, 30 PA9/TIM1_CH2, 31 PA10/TIM1_CH3, 32 PA11/USB_DM, 33 PA12/USB_DP, 34 PA13/SWDIO, 35 VSS_2, 36 VDD_2, 37 PA14/SWCLK, 38 PA15/SPI1_NSS, 39 PB3/TIM2_CH2, 40 PB4/TIM3_CH1, 41 PB5/TIM3_CH2, 42 PB6/USART1_TX, 43 PB7/USART1_RX, 44 BOOT0, 45 PB8/I2C1_SCL, 46 PB9/I2C1_SDA, 47 VSS_3, 48 VDD_3

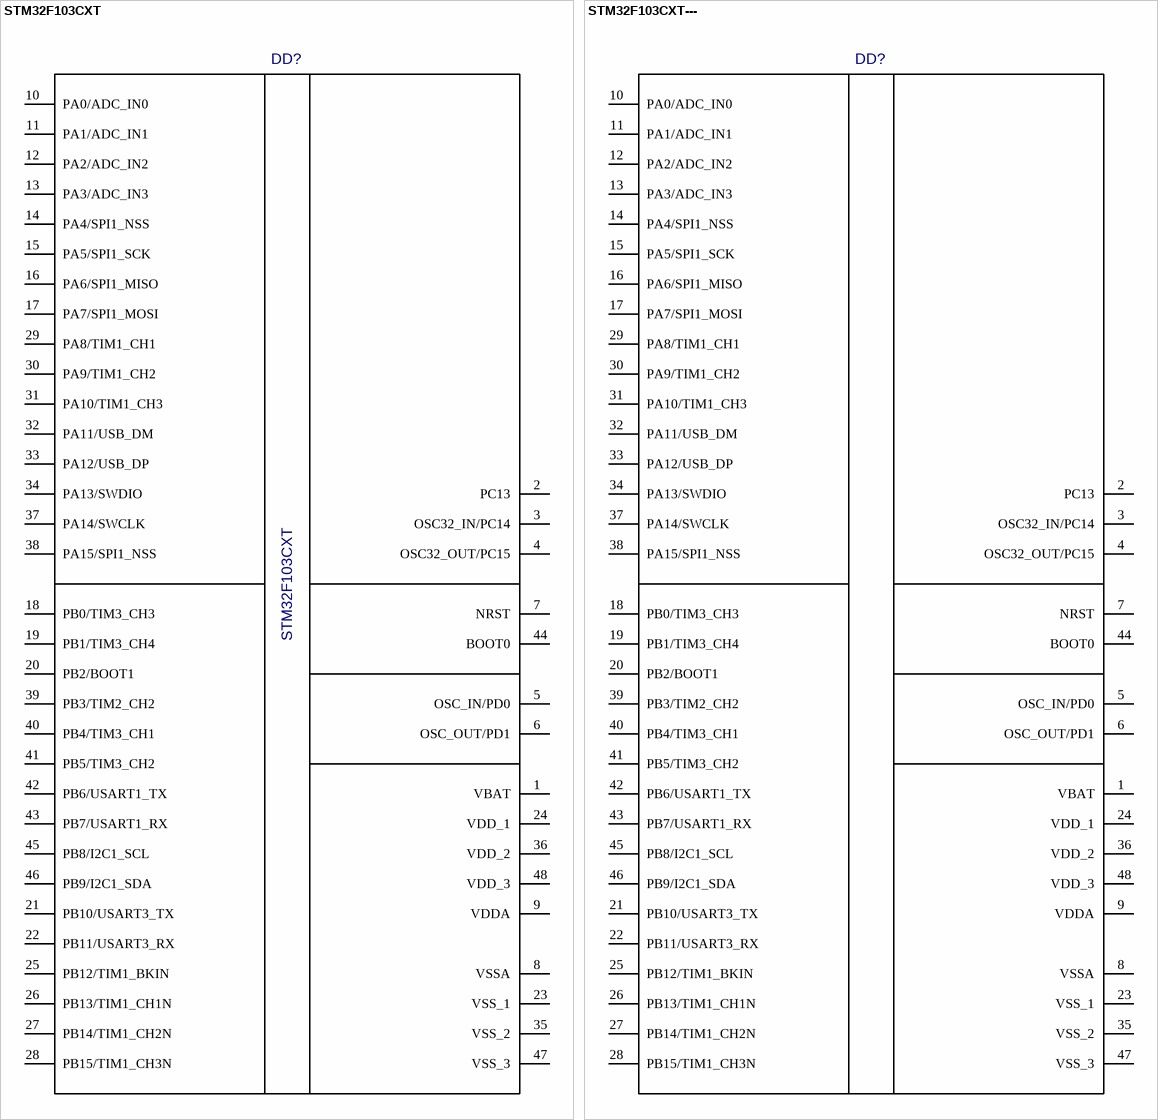
[diagram p6: symbols STM32F103CXT to STM32F103CXT---]

## STM32F103CXT
designator DD?
Value: *
footprint LQFP48
pins: 1 VBAT, 2 PC13, 3 OSC32_IN/PC14, 4 OSC32_OUT/PC15, 5 OSC_IN/PD0, 6 OSC_OUT/PD1, 7 NRST, 8 VSSA, 9 VDDA, 10 PA0/ADC_IN0, 11 PA1/ADC_IN1, 12 PA2/ADC_IN2, 13 PA3/ADC_IN3, 14 PA4/SPI1_NSS, 15 PA5/SPI1_SCK, 16 PA6/SPI1_MISO, 17 PA7/SPI1_MOSI, 18 PB0/TIM3_CH3, 19 PB1/TIM3_CH4, 20 PB2/BOOT1, 21 PB10/USART3_TX, 22 PB11/USART3_RX, 23 VSS_1, 24 VDD_1, 25 PB12/TIM1_BKIN, 26 PB13/TIM1_CH1N, 27 PB14/TIM1_CH2N, 28 PB15/TIM1_CH3N, 29 PA8/TIM1_CH1, 30 PA9/TIM1_CH2, 31 PA10/TIM1_CH3, 32 PA11/USB_DM, 33 PA12/USB_DP, 34 PA13/SWDIO, 35 VSS_2, 36 VDD_2, 37 PA14/SWCLK, 38 PA15/SPI1_NSS, 39 PB3/TIM2_CH2, 40 PB4/TIM3_CH1, 41 PB5/TIM3_CH2, 42 PB6/USART1_TX, 43 PB7/USART1_RX, 44 BOOT0, 45 PB8/I2C1_SCL, 46 PB9/I2C1_SDA, 47 VSS_3, 48 VDD_3

## STM32F103CXT---
designator DD?  (value not drawn)
Value: *
footprint LQFP48
pins: 1 VBAT, 2 PC13, 3 OSC32_IN/PC14, 4 OSC32_OUT/PC15, 5 OSC_IN/PD0, 6 OSC_OUT/PD1, 7 NRST, 8 VSSA, 9 VDDA, 10 PA0/ADC_IN0, 11 PA1/ADC_IN1, 12 PA2/ADC_IN2, 13 PA3/ADC_IN3, 14 PA4/SPI1_NSS, 15 PA5/SPI1_SCK, 16 PA6/SPI1_MISO, 17 PA7/SPI1_MOSI, 18 PB0/TIM3_CH3, 19 PB1/TIM3_CH4, 20 PB2/BOOT1, 21 PB10/USART3_TX, 22 PB11/USART3_RX, 23 VSS_1, 24 VDD_1, 25 PB12/TIM1_BKIN, 26 PB13/TIM1_CH1N, 27 PB14/TIM1_CH2N, 28 PB15/TIM1_CH3N, 29 PA8/TIM1_CH1, 30 PA9/TIM1_CH2, 31 PA10/TIM1_CH3, 32 PA11/USB_DM, 33 PA12/USB_DP, 34 PA13/SWDIO, 35 VSS_2, 36 VDD_2, 37 PA14/SWCLK, 38 PA15/SPI1_NSS, 39 PB3/TIM2_CH2, 40 PB4/TIM3_CH1, 41 PB5/TIM3_CH2, 42 PB6/USART1_TX, 43 PB7/USART1_RX, 44 BOOT0, 45 PB8/I2C1_SCL, 46 PB9/I2C1_SDA, 47 VSS_3, 48 VDD_3

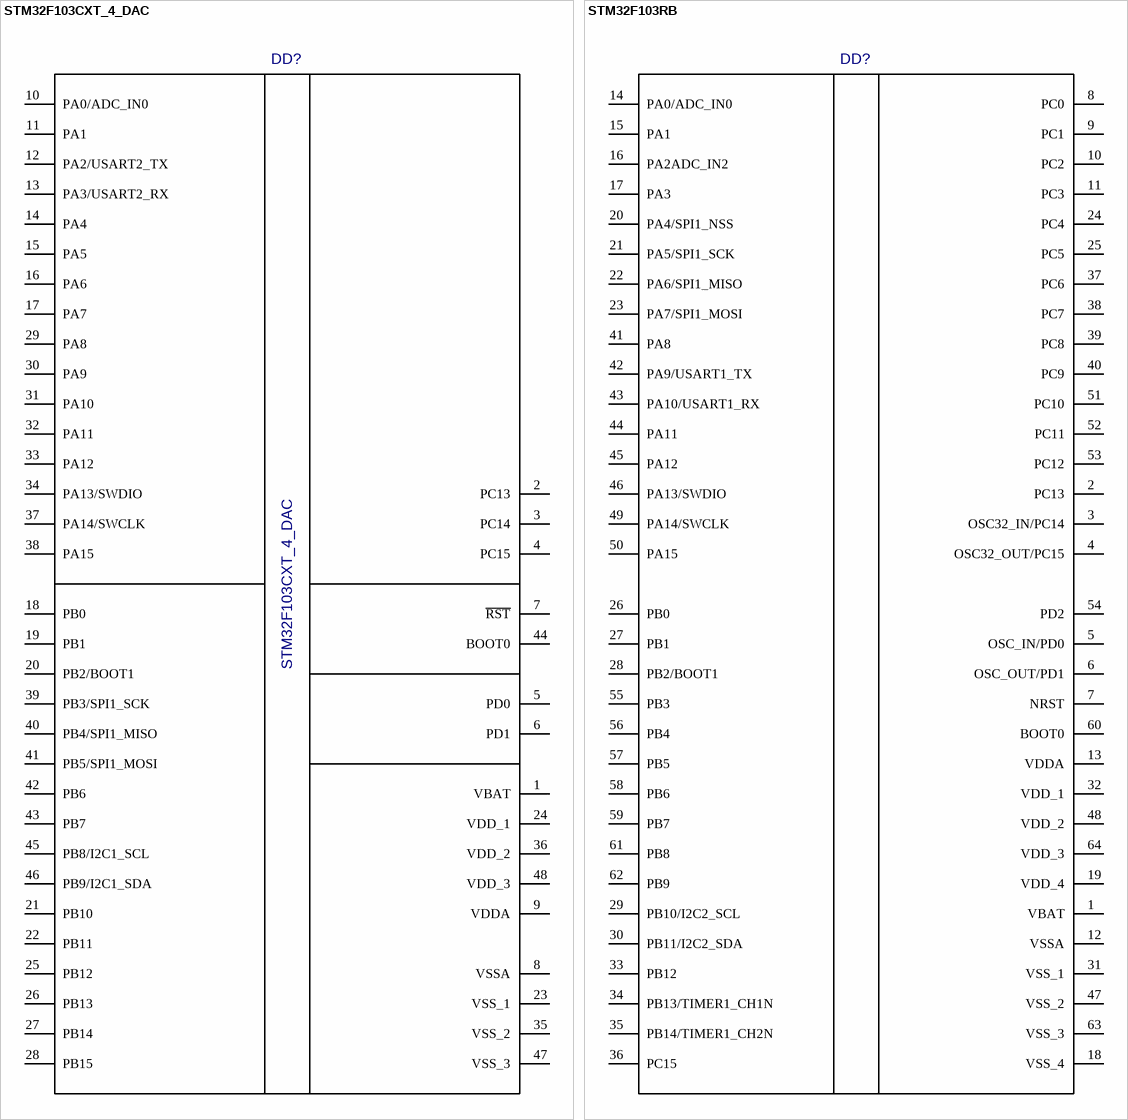
[diagram p7: symbols STM32F103CXT_4_DAC to STM32F103RB]

## STM32F103CXT_4_DAC
designator DD?
Value: *
footprint LQFP48
pins: 1 VBAT, 2 PC13, 3 PC14, 4 PC15, 5 PD0, 6 PD1, 7 ~{RST}, 8 VSSA, 9 VDDA, 10 PA0/ADC_IN0, 11 PA1, 12 PA2/USART2_TX, 13 PA3/USART2_RX, 14 PA4, 15 PA5, 16 PA6, 17 PA7, 18 PB0, 19 PB1, 20 PB2/BOOT1, 21 PB10, 22 PB11, 23 VSS_1, 24 VDD_1, 25 PB12, 26 PB13, 27 PB14, 28 PB15, 29 PA8, 30 PA9, 31 PA10, 32 PA11, 33 PA12, 34 PA13/SWDIO, 35 VSS_2, 36 VDD_2, 37 PA14/SWCLK, 38 PA15, 39 PB3/SPI1_SCK, 40 PB4/SPI1_MISO, 41 PB5/SPI1_MOSI, 42 PB6, 43 PB7, 44 BOOT0, 45 PB8/I2C1_SCL, 46 PB9/I2C1_SDA, 47 VSS_3, 48 VDD_3

## STM32F103RB
designator DD?  (value not drawn)
Value: *
footprint LQFP64
pins: 1 VBAT, 2 PC13, 3 OSC32_IN/PC14, 4 OSC32_OUT/PC15, 5 OSC_IN/PD0, 6 OSC_OUT/PD1, 7 NRST, 8 PC0, 9 PC1, 10 PC2, 11 PC3, 12 VSSA, 13 VDDA, 14 PA0/ADC_IN0, 15 PA1, 16 PA2ADC_IN2, 17 PA3, 18 VSS_4, 19 VDD_4, 20 PA4/SPI1_NSS, 21 PA5/SPI1_SCK, 22 PA6/SPI1_MISO, 23 PA7/SPI1_MOSI, 24 PC4, 25 PC5, 26 PB0, 27 PB1, 28 PB2/BOOT1, 29 PB10/I2C2_SCL, 30 PB11/I2C2_SDA, 31 VSS_1, 32 VDD_1, 33 PB12, 34 PB13/TIMER1_CH1N, 35 PB14/TIMER1_CH2N, 36 PC15, 37 PC6, 38 PC7, 39 PC8, 40 PC9, 41 PA8, 42 PA9/USART1_TX, 43 PA10/USART1_RX, 44 PA11, 45 PA12, 46 PA13/SWDIO, 47 VSS_2, 48 VDD_2, 49 PA14/SWCLK, 50 PA15, 51 PC10, 52 PC11, 53 PC12, 54 PD2, 55 PB3, 56 PB4, 57 PB5, 58 PB6, 59 PB7, 60 BOOT0, 61 PB8, 62 PB9, 63 VSS_3, 64 VDD_3

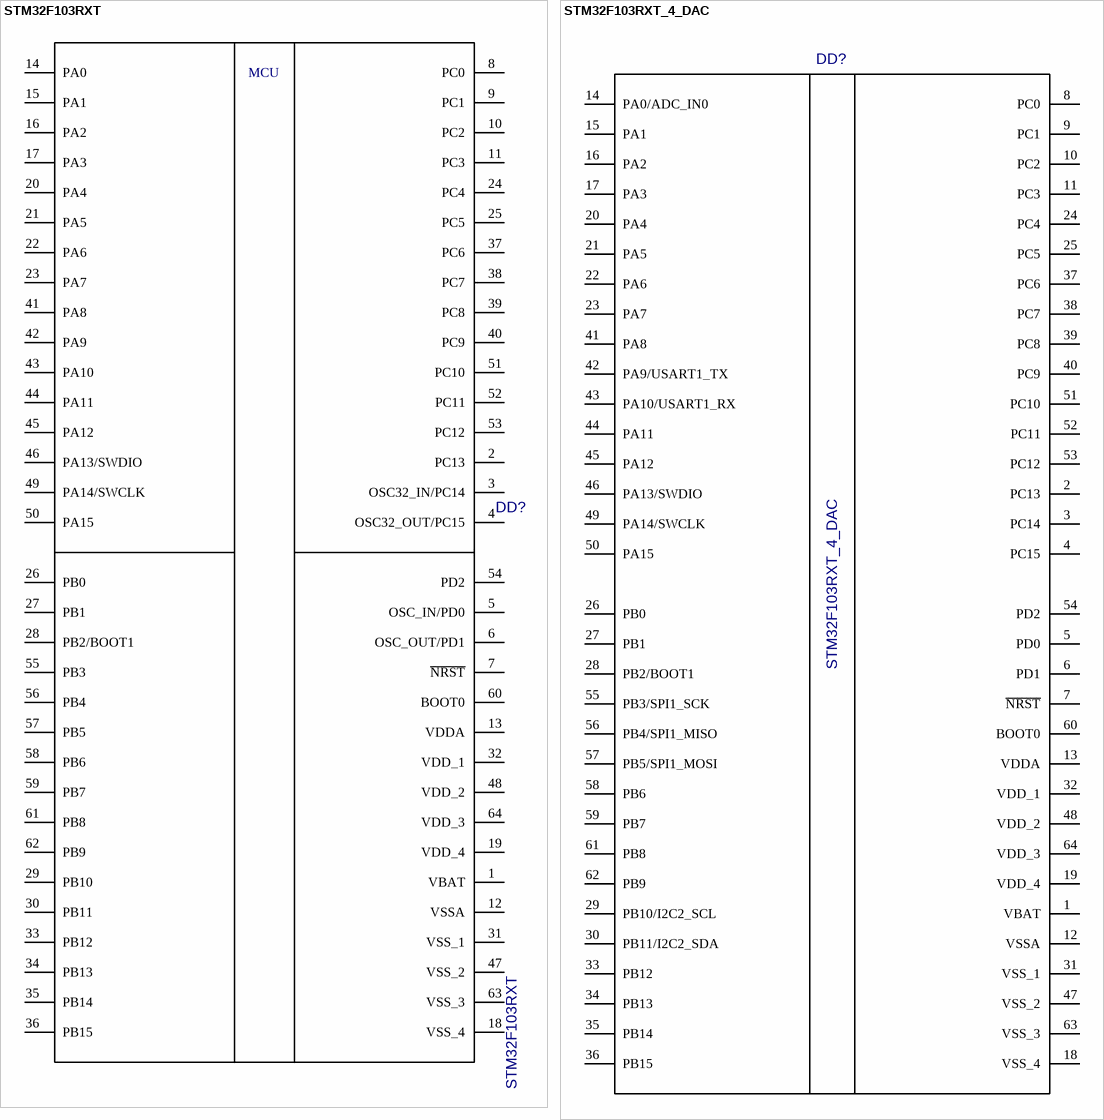
[diagram p8: symbols STM32F103RXT to STM32F103RXT_4_DAC]

## STM32F103RXT
designator DD?
Value: *
footprint LQFP64
pins: 1 VBAT, 2 PC13, 3 OSC32_IN/PC14, 4 OSC32_OUT/PC15, 5 OSC_IN/PD0, 6 OSC_OUT/PD1, 7 ~{NRST}, 8 PC0, 9 PC1, 10 PC2, 11 PC3, 12 VSSA, 13 VDDA, 14 PA0, 15 PA1, 16 PA2, 17 PA3, 18 VSS_4, 19 VDD_4, 20 PA4, 21 PA5, 22 PA6, 23 PA7, 24 PC4, 25 PC5, 26 PB0, 27 PB1, 28 PB2/BOOT1, 29 PB10, 30 PB11, 31 VSS_1, 32 VDD_1, 33 PB12, 34 PB13, 35 PB14, 36 PB15, 37 PC6, 38 PC7, 39 PC8, 40 PC9, 41 PA8, 42 PA9, 43 PA10, 44 PA11, 45 PA12, 46 PA13/SWDIO, 47 VSS_2, 48 VDD_2, 49 PA14/SWCLK, 50 PA15, 51 PC10, 52 PC11, 53 PC12, 54 PD2, 55 PB3, 56 PB4, 57 PB5, 58 PB6, 59 PB7, 60 BOOT0, 61 PB8, 62 PB9, 63 VSS_3, 64 VDD_3
text: MCU

## STM32F103RXT_4_DAC
designator DD?
Value: *
footprint LQFP64
pins: 1 VBAT, 2 PC13, 3 PC14, 4 PC15, 5 PD0, 6 PD1, 7 ~{NRST}, 8 PC0, 9 PC1, 10 PC2, 11 PC3, 12 VSSA, 13 VDDA, 14 PA0/ADC_IN0, 15 PA1, 16 PA2, 17 PA3, 18 VSS_4, 19 VDD_4, 20 PA4, 21 PA5, 22 PA6, 23 PA7, 24 PC4, 25 PC5, 26 PB0, 27 PB1, 28 PB2/BOOT1, 29 PB10/I2C2_SCL, 30 PB11/I2C2_SDA, 31 VSS_1, 32 VDD_1, 33 PB12, 34 PB13, 35 PB14, 36 PB15, 37 PC6, 38 PC7, 39 PC8, 40 PC9, 41 PA8, 42 PA9/USART1_TX, 43 PA10/USART1_RX, 44 PA11, 45 PA12, 46 PA13/SWDIO, 47 VSS_2, 48 VDD_2, 49 PA14/SWCLK, 50 PA15, 51 PC10, 52 PC11, 53 PC12, 54 PD2, 55 PB3/SPI1_SCK, 56 PB4/SPI1_MISO, 57 PB5/SPI1_MOSI, 58 PB6, 59 PB7, 60 BOOT0, 61 PB8, 62 PB9, 63 VSS_3, 64 VDD_3

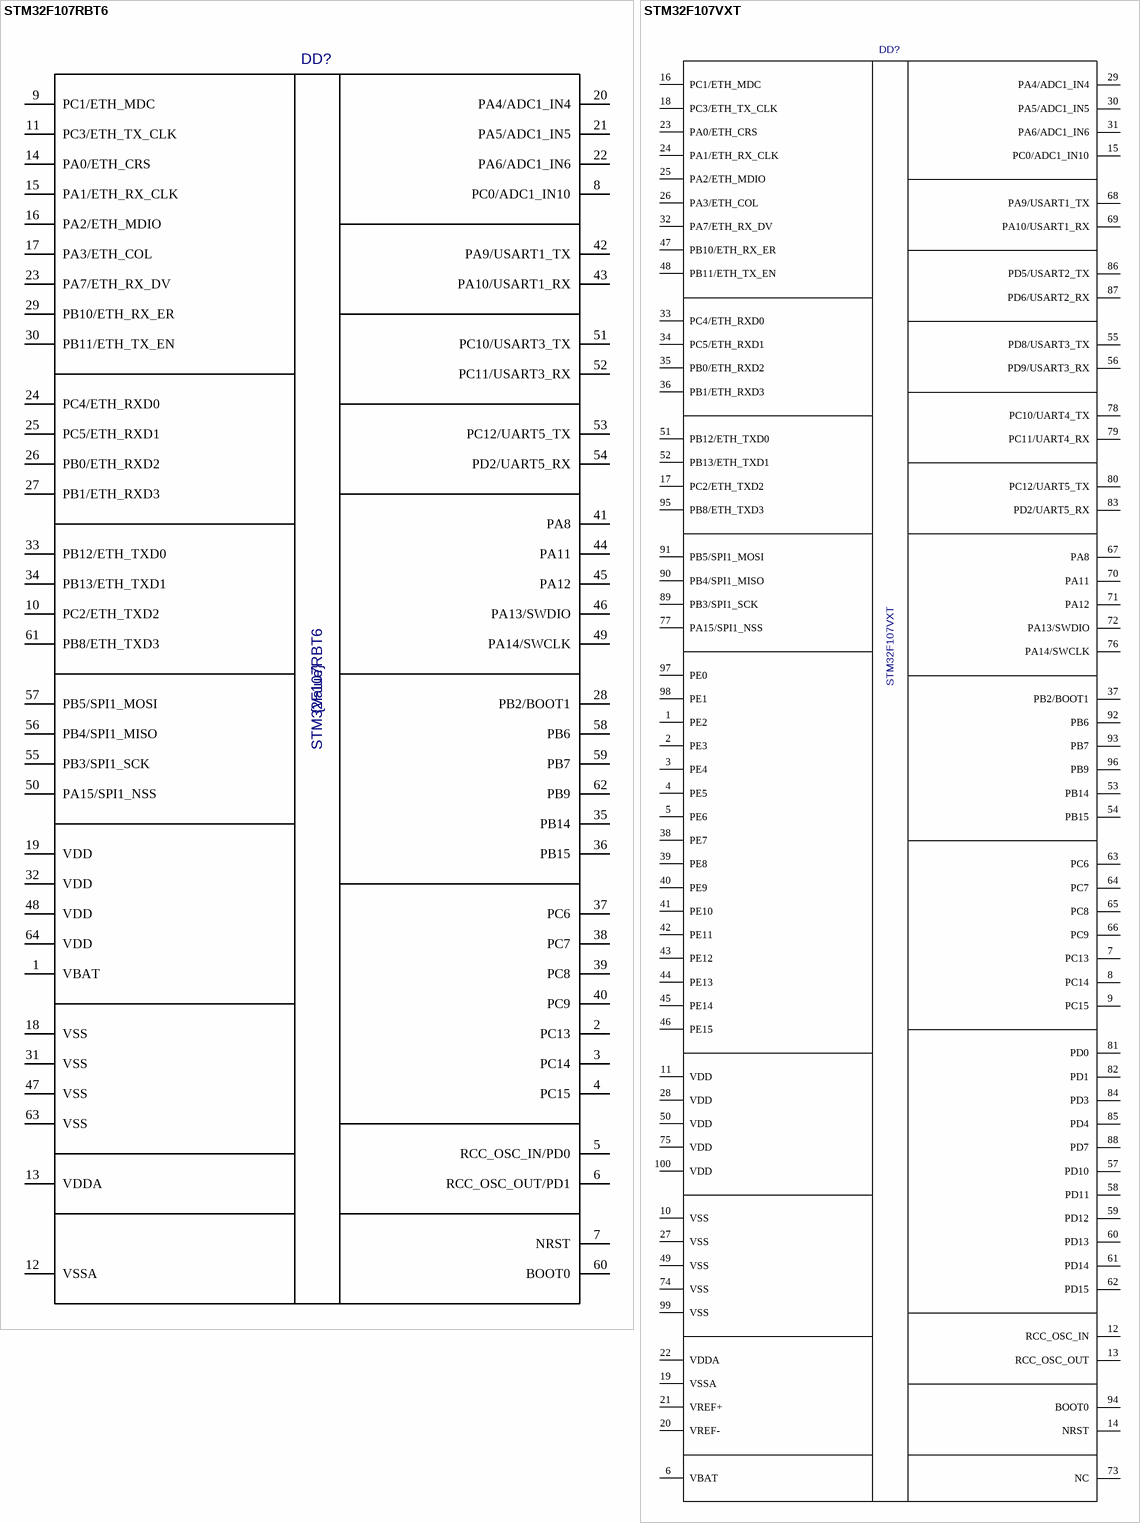
[diagram p9: symbols STM32F107RBT6 to STM32F107VXT]

## STM32F107RBT6
designator DD?  value {Value}
footprint LQFP64
pins: 1 VBAT, 2 PC13, 3 PC14, 4 PC15, 5 RCC_OSC_IN/PD0, 6 RCC_OSC_OUT/PD1, 7 NRST, 8 PC0/ADC1_IN10, 9 PC1/ETH_MDC, 10 PC2/ETH_TXD2, 11 PC3/ETH_TX_CLK, 12 VSSA, 13 VDDA, 14 PA0/ETH_CRS, 15 PA1/ETH_RX_CLK, 16 PA2/ETH_MDIO, 17 PA3/ETH_COL, 18 VSS, 19 VDD, 20 PA4/ADC1_IN4, 21 PA5/ADC1_IN5, 22 PA6/ADC1_IN6, 23 PA7/ETH_RX_DV, 24 PC4/ETH_RXD0, 25 PC5/ETH_RXD1, 26 PB0/ETH_RXD2, 27 PB1/ETH_RXD3, 28 PB2/BOOT1, 29 PB10/ETH_RX_ER, 30 PB11/ETH_TX_EN, 31 VSS, 32 VDD, 33 PB12/ETH_TXD0, 34 PB13/ETH_TXD1, 35 PB14, 36 PB15, 37 PC6, 38 PC7, 39 PC8, 40 PC9, 41 PA8, 42 PA9/USART1_TX, 43 PA10/USART1_RX, 44 PA11, 45 PA12, 46 PA13/SWDIO, 47 VSS, 48 VDD, 49 PA14/SWCLK, 50 PA15/SPI1_NSS, 51 PC10/USART3_TX, 52 PC11/USART3_RX, 53 PC12/UART5_TX, 54 PD2/UART5_RX, 55 PB3/SPI1_SCK, 56 PB4/SPI1_MISO, 57 PB5/SPI1_MOSI, 58 PB6, 59 PB7, 60 BOOT0, 61 PB8/ETH_TXD3, 62 PB9, 63 VSS, 64 VDD

## STM32F107VXT
designator DD?
Value: *
footprint LQFP100
pins: 1 PE2, 2 PE3, 3 PE4, 4 PE5, 5 PE6, 6 VBAT, 7 PC13, 8 PC14, 9 PC15, 10 VSS, 11 VDD, 12 RCC_OSC_IN, 13 RCC_OSC_OUT, 14 NRST, 15 PC0/ADC1_IN10, 16 PC1/ETH_MDC, 17 PC2/ETH_TXD2, 18 PC3/ETH_TX_CLK, 19 VSSA, 20 VREF-, 21 VREF+, 22 VDDA, 23 PA0/ETH_CRS, 24 PA1/ETH_RX_CLK, 25 PA2/ETH_MDIO, 26 PA3/ETH_COL, 27 VSS, 28 VDD, 29 PA4/ADC1_IN4, 30 PA5/ADC1_IN5, 31 PA6/ADC1_IN6, 32 PA7/ETH_RX_DV, 33 PC4/ETH_RXD0, 34 PC5/ETH_RXD1, 35 PB0/ETH_RXD2, 36 PB1/ETH_RXD3, 37 PB2/BOOT1, 38 PE7, 39 PE8, 40 PE9, 41 PE10, 42 PE11, 43 PE12, 44 PE13, 45 PE14, 46 PE15, 47 PB10/ETH_RX_ER, 48 PB11/ETH_TX_EN, 49 VSS, 50 VDD, 51 PB12/ETH_TXD0, 52 PB13/ETH_TXD1, 53 PB14, 54 PB15, 55 PD8/USART3_TX, 56 PD9/USART3_RX, 57 PD10, 58 PD11, 59 PD12, 60 PD13, 61 PD14, 62 PD15, 63 PC6, 64 PC7, 65 PC8, 66 PC9, 67 PA8, 68 PA9/USART1_TX, 69 PA10/USART1_RX, 70 PA11, 71 PA12, 72 PA13/SWDIO, 73 NC, 74 VSS, 75 VDD, 76 PA14/SWCLK, 77 PA15/SPI1_NSS, 78 PC10/UART4_TX, 79 PC11/UART4_RX, 80 PC12/UART5_TX, 81 PD0, 82 PD1, 83 PD2/UART5_RX, 84 PD3, 85 PD4, 86 PD5/USART2_TX, 87 PD6/USART2_RX, 88 PD7, 89 PB3/SPI1_SCK, 90 PB4/SPI1_MISO, 91 PB5/SPI1_MOSI, 92 PB6, 93 PB7, 94 BOOT0, 95 PB8/ETH_TXD3, 96 PB9, 97 PE0, 98 PE1, 99 VSS, 100 VDD

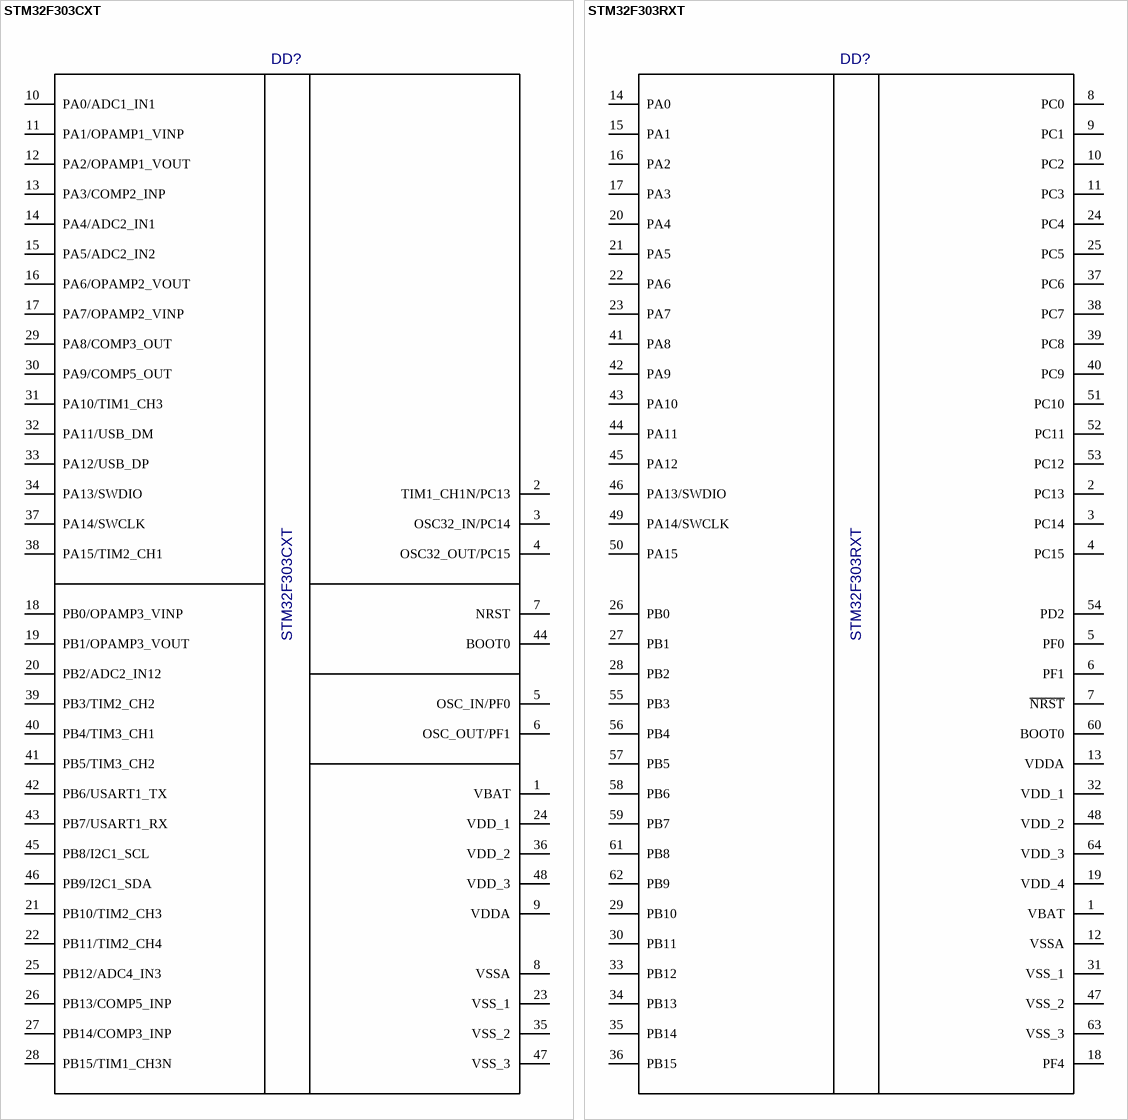
[diagram p10: symbols STM32F303CXT to STM32F303RXT]

## STM32F303CXT
designator DD?
Value: *
footprint LQFP48
pins: 1 VBAT, 2 TIM1_CH1N/PC13, 3 OSC32_IN/PC14, 4 OSC32_OUT/PC15, 5 OSC_IN/PF0, 6 OSC_OUT/PF1, 7 NRST, 8 VSSA, 9 VDDA, 10 PA0/ADC1_IN1, 11 PA1/OPAMP1_VINP, 12 PA2/OPAMP1_VOUT, 13 PA3/COMP2_INP, 14 PA4/ADC2_IN1, 15 PA5/ADC2_IN2, 16 PA6/OPAMP2_VOUT, 17 PA7/OPAMP2_VINP, 18 PB0/OPAMP3_VINP, 19 PB1/OPAMP3_VOUT, 20 PB2/ADC2_IN12, 21 PB10/TIM2_CH3, 22 PB11/TIM2_CH4, 23 VSS_1, 24 VDD_1, 25 PB12/ADC4_IN3, 26 PB13/COMP5_INP, 27 PB14/COMP3_INP, 28 PB15/TIM1_CH3N, 29 PA8/COMP3_OUT, 30 PA9/COMP5_OUT, 31 PA10/TIM1_CH3, 32 PA11/USB_DM, 33 PA12/USB_DP, 34 PA13/SWDIO, 35 VSS_2, 36 VDD_2, 37 PA14/SWCLK, 38 PA15/TIM2_CH1, 39 PB3/TIM2_CH2, 40 PB4/TIM3_CH1, 41 PB5/TIM3_CH2, 42 PB6/USART1_TX, 43 PB7/USART1_RX, 44 BOOT0, 45 PB8/I2C1_SCL, 46 PB9/I2C1_SDA, 47 VSS_3, 48 VDD_3

## STM32F303RXT
designator DD?
Value: {Value}
footprint LQFP64
pins: 1 VBAT, 2 PC13, 3 PC14, 4 PC15, 5 PF0, 6 PF1, 7 ~{NRST}, 8 PC0, 9 PC1, 10 PC2, 11 PC3, 12 VSSA, 13 VDDA, 14 PA0, 15 PA1, 16 PA2, 17 PA3, 18 PF4, 19 VDD_4, 20 PA4, 21 PA5, 22 PA6, 23 PA7, 24 PC4, 25 PC5, 26 PB0, 27 PB1, 28 PB2, 29 PB10, 30 PB11, 31 VSS_1, 32 VDD_1, 33 PB12, 34 PB13, 35 PB14, 36 PB15, 37 PC6, 38 PC7, 39 PC8, 40 PC9, 41 PA8, 42 PA9, 43 PA10, 44 PA11, 45 PA12, 46 PA13/SWDIO, 47 VSS_2, 48 VDD_2, 49 PA14/SWCLK, 50 PA15, 51 PC10, 52 PC11, 53 PC12, 54 PD2, 55 PB3, 56 PB4, 57 PB5, 58 PB6, 59 PB7, 60 BOOT0, 61 PB8, 62 PB9, 63 VSS_3, 64 VDD_3

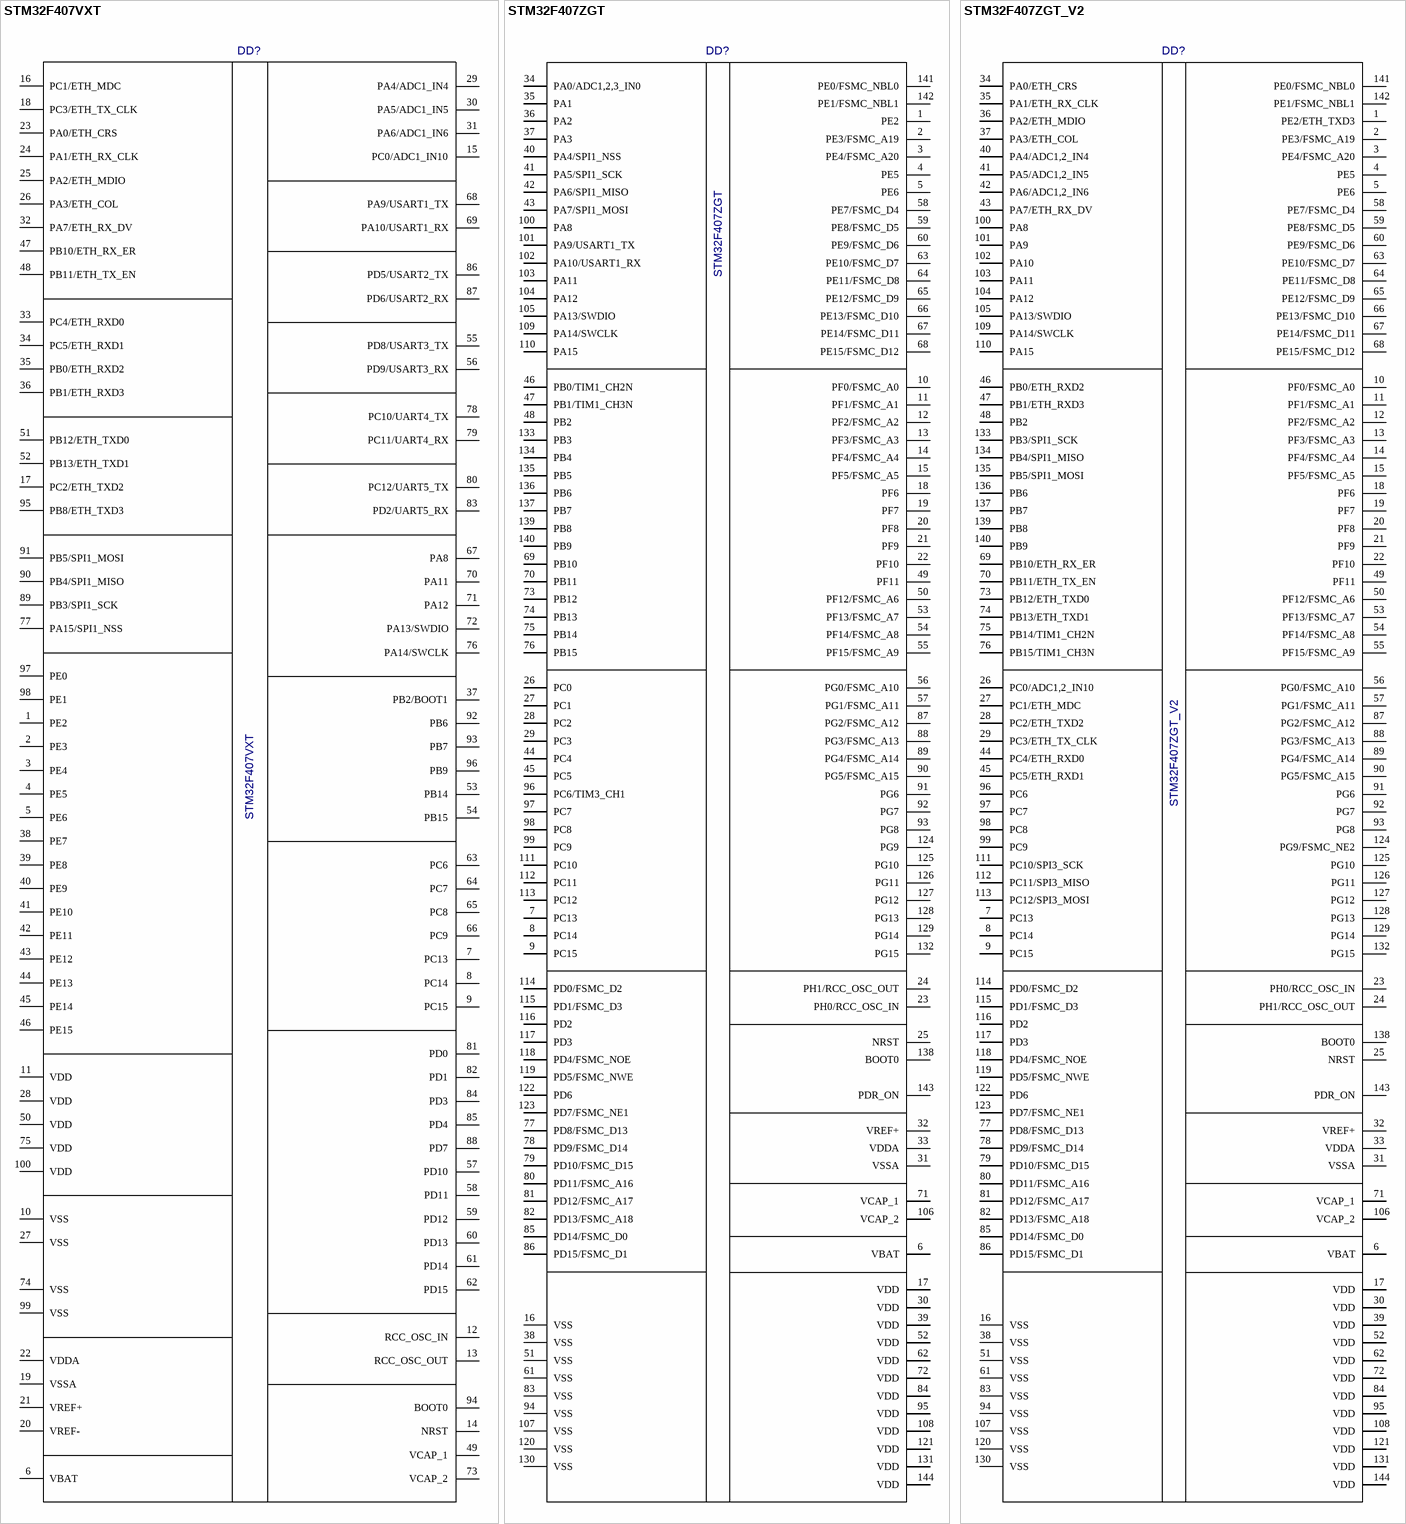
[diagram p11: symbols STM32F407VXT to STM32F407ZGT_V2]

## STM32F407VXT
designator DD?
Value: *
footprint LQFP100
pins: 1 PE2, 2 PE3, 3 PE4, 4 PE5, 5 PE6, 6 VBAT, 7 PC13, 8 PC14, 9 PC15, 10 VSS, 11 VDD, 12 RCC_OSC_IN, 13 RCC_OSC_OUT, 14 NRST, 15 PC0/ADC1_IN10, 16 PC1/ETH_MDC, 17 PC2/ETH_TXD2, 18 PC3/ETH_TX_CLK, 19 VSSA, 20 VREF-, 21 VREF+, 22 VDDA, 23 PA0/ETH_CRS, 24 PA1/ETH_RX_CLK, 25 PA2/ETH_MDIO, 26 PA3/ETH_COL, 27 VSS, 28 VDD, 29 PA4/ADC1_IN4, 30 PA5/ADC1_IN5, 31 PA6/ADC1_IN6, 32 PA7/ETH_RX_DV, 33 PC4/ETH_RXD0, 34 PC5/ETH_RXD1, 35 PB0/ETH_RXD2, 36 PB1/ETH_RXD3, 37 PB2/BOOT1, 38 PE7, 39 PE8, 40 PE9, 41 PE10, 42 PE11, 43 PE12, 44 PE13, 45 PE14, 46 PE15, 47 PB10/ETH_RX_ER, 48 PB11/ETH_TX_EN, 49 VCAP_1, 50 VDD, 51 PB12/ETH_TXD0, 52 PB13/ETH_TXD1, 53 PB14, 54 PB15, 55 PD8/USART3_TX, 56 PD9/USART3_RX, 57 PD10, 58 PD11, 59 PD12, 60 PD13, 61 PD14, 62 PD15, 63 PC6, 64 PC7, 65 PC8, 66 PC9, 67 PA8, 68 PA9/USART1_TX, 69 PA10/USART1_RX, 70 PA11, 71 PA12, 72 PA13/SWDIO, 73 VCAP_2, 74 VSS, 75 VDD, 76 PA14/SWCLK, 77 PA15/SPI1_NSS, 78 PC10/UART4_TX, 79 PC11/UART4_RX, 80 PC12/UART5_TX, 81 PD0, 82 PD1, 83 PD2/UART5_RX, 84 PD3, 85 PD4, 86 PD5/USART2_TX, 87 PD6/USART2_RX, 88 PD7, 89 PB3/SPI1_SCK, 90 PB4/SPI1_MISO, 91 PB5/SPI1_MOSI, 92 PB6, 93 PB7, 94 BOOT0, 95 PB8/ETH_TXD3, 96 PB9, 97 PE0, 98 PE1, 99 VSS, 100 VDD

## STM32F407ZGT
designator DD?
Value: *
pins: 1 PE2, 2 PE3/FSMC_A19, 3 PE4/FSMC_A20, 4 PE5, 5 PE6, 6 VBAT, 7 PC13, 8 PC14, 9 PC15, 10 PF0/FSMC_A0, 11 PF1/FSMC_A1, 12 PF2/FSMC_A2, 13 PF3/FSMC_A3, 14 PF4/FSMC_A4, 15 PF5/FSMC_A5, 16 VSS, 17 VDD, 18 PF6, 19 PF7, 20 PF8, 21 PF9, 22 PF10, 23 PH0/RCC_OSC_IN, 24 PH1/RCC_OSC_OUT, 25 NRST, 26 PC0, 27 PC1, 28 PC2, 29 PC3, 30 VDD, 31 VSSA, 32 VREF+, 33 VDDA, 34 PA0/ADC1,2,3_IN0, 35 PA1, 36 PA2, 37 PA3, 38 VSS, 39 VDD, 40 PA4/SPI1_NSS, 41 PA5/SPI1_SCK, 42 PA6/SPI1_MISO, 43 PA7/SPI1_MOSI, 44 PC4, 45 PC5, 46 PB0/TIM1_CH2N, 47 PB1/TIM1_CH3N, 48 PB2, 49 PF11, 50 PF12/FSMC_A6, 51 VSS, 52 VDD, 53 PF13/FSMC_A7, 54 PF14/FSMC_A8, 55 PF15/FSMC_A9, 56 PG0/FSMC_A10, 57 PG1/FSMC_A11, 58 PE7/FSMC_D4, 59 PE8/FSMC_D5, 60 PE9/FSMC_D6, 61 VSS, 62 VDD, 63 PE10/FSMC_D7, 64 PE11/FSMC_D8, 65 PE12/FSMC_D9, 66 PE13/FSMC_D10, 67 PE14/FSMC_D11, 68 PE15/FSMC_D12, 69 PB10, 70 PB11, 71 VCAP_1, 72 VDD, 73 PB12, 74 PB13, 75 PB14, 76 PB15, 77 PD8/FSMC_D13, 78 PD9/FSMC_D14, 79 PD10/FSMC_D15, 80 PD11/FSMC_A16, 81 PD12/FSMC_A17, 82 PD13/FSMC_A18, 83 VSS, 84 VDD, 85 PD14/FSMC_D0, 86 PD15/FSMC_D1, 87 PG2/FSMC_A12, 88 PG3/FSMC_A13, 89 PG4/FSMC_A14, 90 PG5/FSMC_A15, 91 PG6, 92 PG7, 93 PG8, 94 VSS, 95 VDD, 96 PC6/TIM3_CH1, 97 PC7, 98 PC8, 99 PC9, 100 PA8, 101 PA9/USART1_TX, 102 PA10/USART1_RX, 103 PA11, 104 PA12, 105 PA13/SWDIO, 106 VCAP_2, 107 VSS, 108 VDD, 109 PA14/SWCLK, 110 PA15, 111 PC10, 112 PC11, 113 PC12, 114 PD0/FSMC_D2, 115 PD1/FSMC_D3, 116 PD2, 117 PD3, 118 PD4/FSMC_NOE, 119 PD5/FSMC_NWE, 120 VSS, 121 VDD, 122 PD6, 123 PD7/FSMC_NE1, 124 PG9, 125 PG10, 126 PG11, 127 PG12, 128 PG13, 129 PG14, 130 VSS, 131 VDD, 132 PG15, 133 PB3, 134 PB4, 135 PB5, 136 PB6, 137 PB7, 138 BOOT0, 139 PB8, 140 PB9, 141 PE0/FSMC_NBL0, 142 PE1/FSMC_NBL1, 143 PDR_ON, 144 VDD

## STM32F407ZGT_V2
designator DD?
Value: *
pins: 1 PE2/ETH_TXD3, 2 PE3/FSMC_A19, 3 PE4/FSMC_A20, 4 PE5, 5 PE6, 6 VBAT, 7 PC13, 8 PC14, 9 PC15, 10 PF0/FSMC_A0, 11 PF1/FSMC_A1, 12 PF2/FSMC_A2, 13 PF3/FSMC_A3, 14 PF4/FSMC_A4, 15 PF5/FSMC_A5, 16 VSS, 17 VDD, 18 PF6, 19 PF7, 20 PF8, 21 PF9, 22 PF10, 23 PH0/RCC_OSC_IN, 24 PH1/RCC_OSC_OUT, 25 NRST, 26 PC0/ADC1,2_IN10, 27 PC1/ETH_MDC, 28 PC2/ETH_TXD2, 29 PC3/ETH_TX_CLK, 30 VDD, 31 VSSA, 32 VREF+, 33 VDDA, 34 PA0/ETH_CRS, 35 PA1/ETH_RX_CLK, 36 PA2/ETH_MDIO, 37 PA3/ETH_COL, 38 VSS, 39 VDD, 40 PA4/ADC1,2_IN4, 41 PA5/ADC1,2_IN5, 42 PA6/ADC1,2_IN6, 43 PA7/ETH_RX_DV, 44 PC4/ETH_RXD0, 45 PC5/ETH_RXD1, 46 PB0/ETH_RXD2, 47 PB1/ETH_RXD3, 48 PB2, 49 PF11, 50 PF12/FSMC_A6, 51 VSS, 52 VDD, 53 PF13/FSMC_A7, 54 PF14/FSMC_A8, 55 PF15/FSMC_A9, 56 PG0/FSMC_A10, 57 PG1/FSMC_A11, 58 PE7/FSMC_D4, 59 PE8/FSMC_D5, 60 PE9/FSMC_D6, 61 VSS, 62 VDD, 63 PE10/FSMC_D7, 64 PE11/FSMC_D8, 65 PE12/FSMC_D9, 66 PE13/FSMC_D10, 67 PE14/FSMC_D11, 68 PE15/FSMC_D12, 69 PB10/ETH_RX_ER, 70 PB11/ETH_TX_EN, 71 VCAP_1, 72 VDD, 73 PB12/ETH_TXD0, 74 PB13/ETH_TXD1, 75 PB14/TIM1_CH2N, 76 PB15/TIM1_CH3N, 77 PD8/FSMC_D13, 78 PD9/FSMC_D14, 79 PD10/FSMC_D15, 80 PD11/FSMC_A16, 81 PD12/FSMC_A17, 82 PD13/FSMC_A18, 83 VSS, 84 VDD, 85 PD14/FSMC_D0, 86 PD15/FSMC_D1, 87 PG2/FSMC_A12, 88 PG3/FSMC_A13, 89 PG4/FSMC_A14, 90 PG5/FSMC_A15, 91 PG6, 92 PG7, 93 PG8, 94 VSS, 95 VDD, 96 PC6, 97 PC7, 98 PC8, 99 PC9, 100 PA8, 101 PA9, 102 PA10, 103 PA11, 104 PA12, 105 PA13/SWDIO, 106 VCAP_2, 107 VSS, 108 VDD, 109 PA14/SWCLK, 110 PA15, 111 PC10/SPI3_SCK, 112 PC11/SPI3_MISO, 113 PC12/SPI3_MOSI, 114 PD0/FSMC_D2, 115 PD1/FSMC_D3, 116 PD2, 117 PD3, 118 PD4/FSMC_NOE, 119 PD5/FSMC_NWE, 120 VSS, 121 VDD, 122 PD6, 123 PD7/FSMC_NE1, 124 PG9/FSMC_NE2, 125 PG10, 126 PG11, 127 PG12, 128 PG13, 129 PG14, 130 VSS, 131 VDD, 132 PG15, 133 PB3/SPI1_SCK, 134 PB4/SPI1_MISO, 135 PB5/SPI1_MOSI, 136 PB6, 137 PB7, 138 BOOT0, 139 PB8, 140 PB9, 141 PE0/FSMC_NBL0, 142 PE1/FSMC_NBL1, 143 PDR_ON, 144 VDD

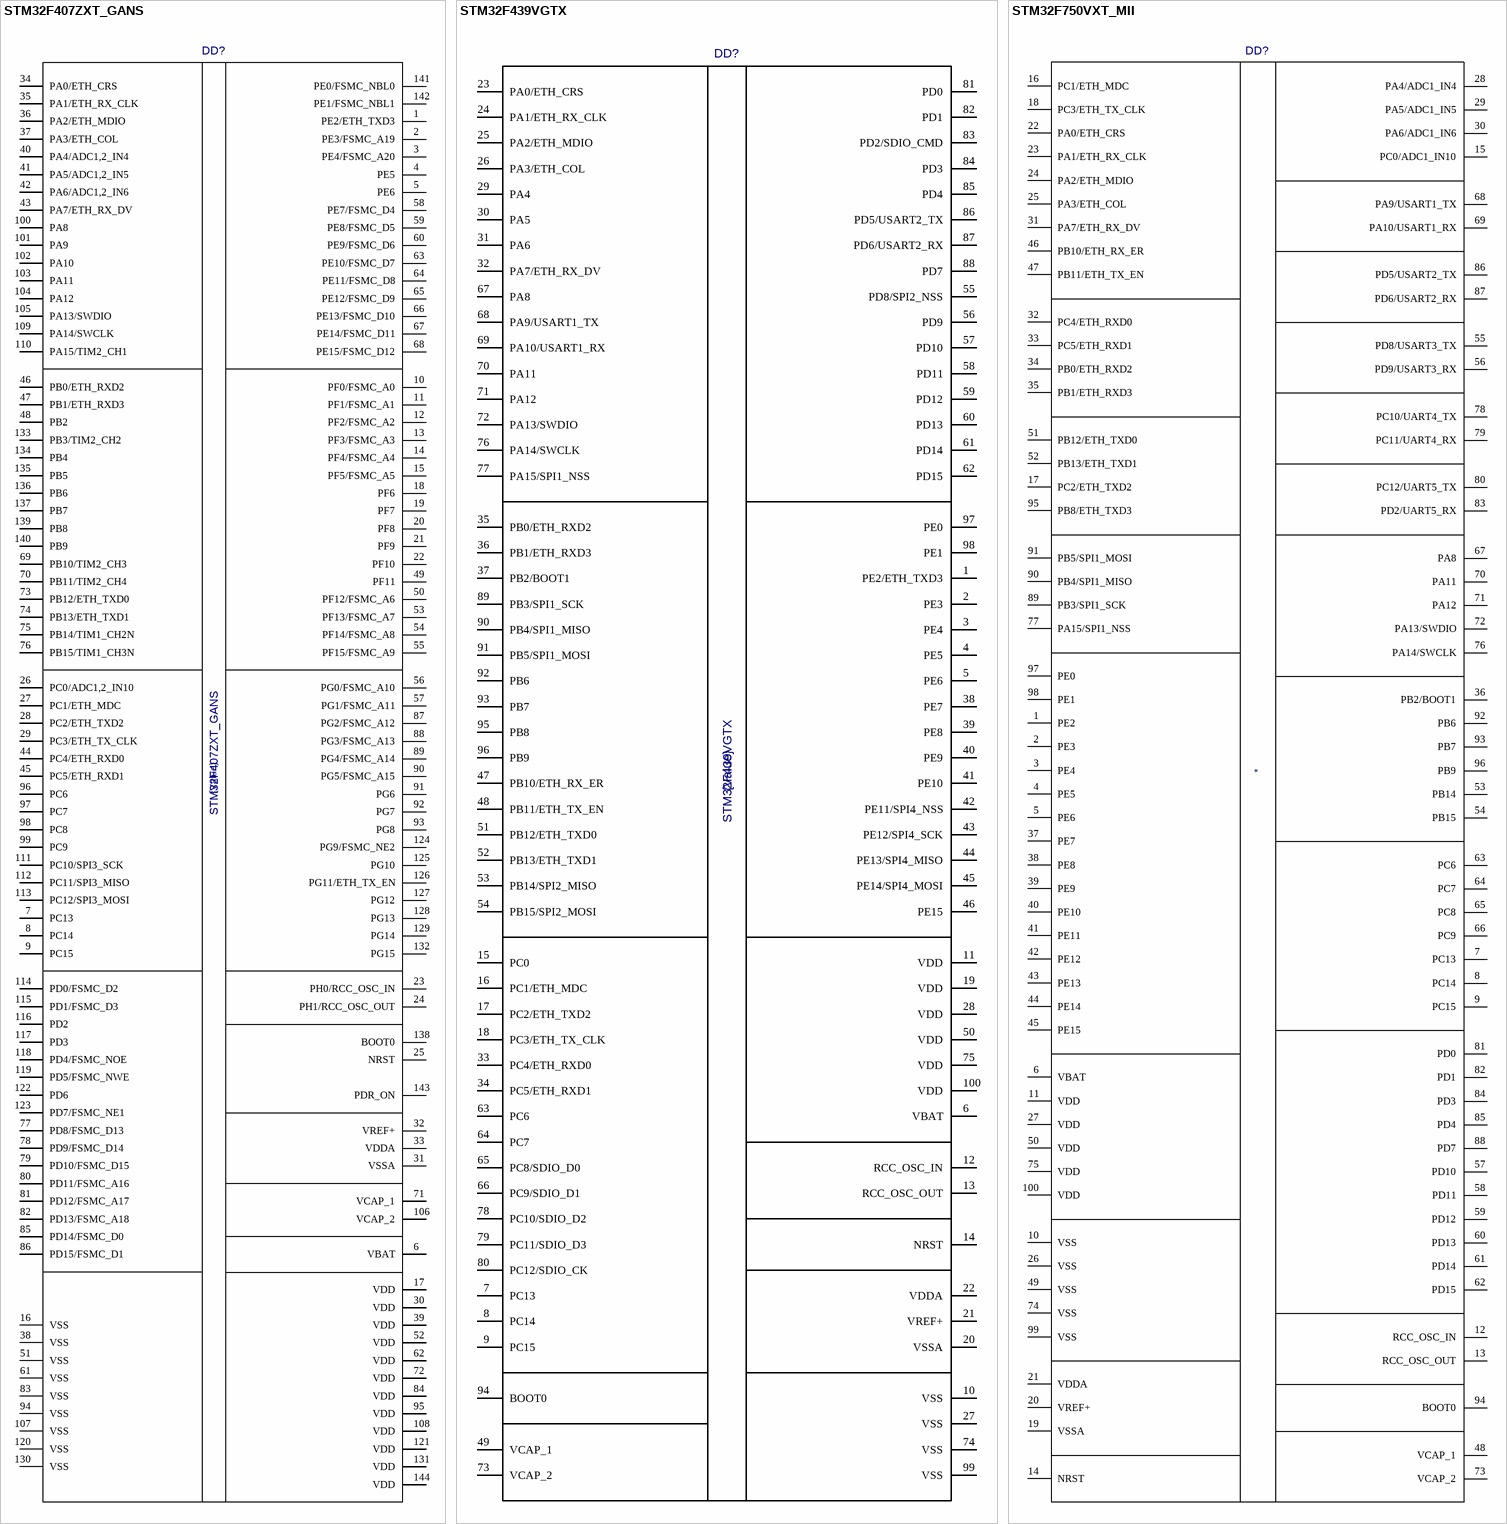
[diagram p12: symbols STM32F407ZXT_GANS to STM32F750VXT_MII]

## STM32F407ZXT_GANS
designator DD?  value {Value}
pins: 1 PE2/ETH_TXD3, 2 PE3/FSMC_A19, 3 PE4/FSMC_A20, 4 PE5, 5 PE6, 6 VBAT, 7 PC13, 8 PC14, 9 PC15, 10 PF0/FSMC_A0, 11 PF1/FSMC_A1, 12 PF2/FSMC_A2, 13 PF3/FSMC_A3, 14 PF4/FSMC_A4, 15 PF5/FSMC_A5, 16 VSS, 17 VDD, 18 PF6, 19 PF7, 20 PF8, 21 PF9, 22 PF10, 23 PH0/RCC_OSC_IN, 24 PH1/RCC_OSC_OUT, 25 NRST, 26 PC0/ADC1,2_IN10, 27 PC1/ETH_MDC, 28 PC2/ETH_TXD2, 29 PC3/ETH_TX_CLK, 30 VDD, 31 VSSA, 32 VREF+, 33 VDDA, 34 PA0/ETH_CRS, 35 PA1/ETH_RX_CLK, 36 PA2/ETH_MDIO, 37 PA3/ETH_COL, 38 VSS, 39 VDD, 40 PA4/ADC1,2_IN4, 41 PA5/ADC1,2_IN5, 42 PA6/ADC1,2_IN6, 43 PA7/ETH_RX_DV, 44 PC4/ETH_RXD0, 45 PC5/ETH_RXD1, 46 PB0/ETH_RXD2, 47 PB1/ETH_RXD3, 48 PB2, 49 PF11, 50 PF12/FSMC_A6, 51 VSS, 52 VDD, 53 PF13/FSMC_A7, 54 PF14/FSMC_A8, 55 PF15/FSMC_A9, 56 PG0/FSMC_A10, 57 PG1/FSMC_A11, 58 PE7/FSMC_D4, 59 PE8/FSMC_D5, 60 PE9/FSMC_D6, 61 VSS, 62 VDD, 63 PE10/FSMC_D7, 64 PE11/FSMC_D8, 65 PE12/FSMC_D9, 66 PE13/FSMC_D10, 67 PE14/FSMC_D11, 68 PE15/FSMC_D12, 69 PB10/TIM2_CH3, 70 PB11/TIM2_CH4, 71 VCAP_1, 72 VDD, 73 PB12/ETH_TXD0, 74 PB13/ETH_TXD1, 75 PB14/TIM1_CH2N, 76 PB15/TIM1_CH3N, 77 PD8/FSMC_D13, 78 PD9/FSMC_D14, 79 PD10/FSMC_D15, 80 PD11/FSMC_A16, 81 PD12/FSMC_A17, 82 PD13/FSMC_A18, 83 VSS, 84 VDD, 85 PD14/FSMC_D0, 86 PD15/FSMC_D1, 87 PG2/FSMC_A12, 88 PG3/FSMC_A13, 89 PG4/FSMC_A14, 90 PG5/FSMC_A15, 91 PG6, 92 PG7, 93 PG8, 94 VSS, 95 VDD, 96 PC6, 97 PC7, 98 PC8, 99 PC9, 100 PA8, 101 PA9, 102 PA10, 103 PA11, 104 PA12, 105 PA13/SWDIO, 106 VCAP_2, 107 VSS, 108 VDD, 109 PA14/SWCLK, 110 PA15/TIM2_CH1, 111 PC10/SPI3_SCK, 112 PC11/SPI3_MISO, 113 PC12/SPI3_MOSI, 114 PD0/FSMC_D2, 115 PD1/FSMC_D3, 116 PD2, 117 PD3, 118 PD4/FSMC_NOE, 119 PD5/FSMC_NWE, 120 VSS, 121 VDD, 122 PD6, 123 PD7/FSMC_NE1, 124 PG9/FSMC_NE2, 125 PG10, 126 PG11/ETH_TX_EN, 127 PG12, 128 PG13, 129 PG14, 130 VSS, 131 VDD, 132 PG15, 133 PB3/TIM2_CH2, 134 PB4, 135 PB5, 136 PB6, 137 PB7, 138 BOOT0, 139 PB8, 140 PB9, 141 PE0/FSMC_NBL0, 142 PE1/FSMC_NBL1, 143 PDR_ON, 144 VDD

## STM32F439VGTX
designator DD?  value {Value}
footprint LQFP100
pins: 1 PE2/ETH_TXD3, 2 PE3, 3 PE4, 4 PE5, 5 PE6, 6 VBAT, 7 PC13, 8 PC14, 9 PC15, 10 VSS, 11 VDD, 12 RCC_OSC_IN, 13 RCC_OSC_OUT, 14 NRST, 15 PC0, 16 PC1/ETH_MDC, 17 PC2/ETH_TXD2, 18 PC3/ETH_TX_CLK, 19 VDD, 20 VSSA, 21 VREF+, 22 VDDA, 23 PA0/ETH_CRS, 24 PA1/ETH_RX_CLK, 25 PA2/ETH_MDIO, 26 PA3/ETH_COL, 27 VSS, 28 VDD, 29 PA4, 30 PA5, 31 PA6, 32 PA7/ETH_RX_DV, 33 PC4/ETH_RXD0, 34 PC5/ETH_RXD1, 35 PB0/ETH_RXD2, 36 PB1/ETH_RXD3, 37 PB2/BOOT1, 38 PE7, 39 PE8, 40 PE9, 41 PE10, 42 PE11/SPI4_NSS, 43 PE12/SPI4_SCK, 44 PE13/SPI4_MISO, 45 PE14/SPI4_MOSI, 46 PE15, 47 PB10/ETH_RX_ER, 48 PB11/ETH_TX_EN, 49 VCAP_1, 50 VDD, 51 PB12/ETH_TXD0, 52 PB13/ETH_TXD1, 53 PB14/SPI2_MISO, 54 PB15/SPI2_MOSI, 55 PD8/SPI2_NSS, 56 PD9, 57 PD10, 58 PD11, 59 PD12, 60 PD13, 61 PD14, 62 PD15, 63 PC6, 64 PC7, 65 PC8/SDIO_D0, 66 PC9/SDIO_D1, 67 PA8, 68 PA9/USART1_TX, 69 PA10/USART1_RX, 70 PA11, 71 PA12, 72 PA13/SWDIO, 73 VCAP_2, 74 VSS, 75 VDD, 76 PA14/SWCLK, 77 PA15/SPI1_NSS, 78 PC10/SDIO_D2, 79 PC11/SDIO_D3, 80 PC12/SDIO_CK, 81 PD0, 82 PD1, 83 PD2/SDIO_CMD, 84 PD3, 85 PD4, 86 PD5/USART2_TX, 87 PD6/USART2_RX, 88 PD7, 89 PB3/SPI1_SCK, 90 PB4/SPI1_MISO, 91 PB5/SPI1_MOSI, 92 PB6, 93 PB7, 94 BOOT0, 95 PB8, 96 PB9, 97 PE0, 98 PE1, 99 VSS, 100 VDD

## STM32F750VXT_MII
designator DD?  (value not drawn)
Value: *
footprint TQFP100
pins: 1 PE2, 2 PE3, 3 PE4, 4 PE5, 5 PE6, 6 VBAT, 7 PC13, 8 PC14, 9 PC15, 10 VSS, 11 VDD, 12 RCC_OSC_IN, 13 RCC_OSC_OUT, 14 NRST, 15 PC0/ADC1_IN10, 16 PC1/ETH_MDC, 17 PC2/ETH_TXD2, 18 PC3/ETH_TX_CLK, 19 VSSA, 20 VREF+, 21 VDDA, 22 PA0/ETH_CRS, 23 PA1/ETH_RX_CLK, 24 PA2/ETH_MDIO, 25 PA3/ETH_COL, 26 VSS, 27 VDD, 28 PA4/ADC1_IN4, 29 PA5/ADC1_IN5, 30 PA6/ADC1_IN6, 31 PA7/ETH_RX_DV, 32 PC4/ETH_RXD0, 33 PC5/ETH_RXD1, 34 PB0/ETH_RXD2, 35 PB1/ETH_RXD3, 36 PB2/BOOT1, 37 PE7, 38 PE8, 39 PE9, 40 PE10, 41 PE11, 42 PE12, 43 PE13, 44 PE14, 45 PE15, 46 PB10/ETH_RX_ER, 47 PB11/ETH_TX_EN, 48 VCAP_1, 49 VSS, 50 VDD, 51 PB12/ETH_TXD0, 52 PB13/ETH_TXD1, 53 PB14, 54 PB15, 55 PD8/USART3_TX, 56 PD9/USART3_RX, 57 PD10, 58 PD11, 59 PD12, 60 PD13, 61 PD14, 62 PD15, 63 PC6, 64 PC7, 65 PC8, 66 PC9, 67 PA8, 68 PA9/USART1_TX, 69 PA10/USART1_RX, 70 PA11, 71 PA12, 72 PA13/SWDIO, 73 VCAP_2, 74 VSS, 75 VDD, 76 PA14/SWCLK, 77 PA15/SPI1_NSS, 78 PC10/UART4_TX, 79 PC11/UART4_RX, 80 PC12/UART5_TX, 81 PD0, 82 PD1, 83 PD2/UART5_RX, 84 PD3, 85 PD4, 86 PD5/USART2_TX, 87 PD6/USART2_RX, 88 PD7, 89 PB3/SPI1_SCK, 90 PB4/SPI1_MISO, 91 PB5/SPI1_MOSI, 92 PB6, 93 PB7, 94 BOOT0, 95 PB8/ETH_TXD3, 96 PB9, 97 PE0, 98 PE1, 99 VSS, 100 VDD

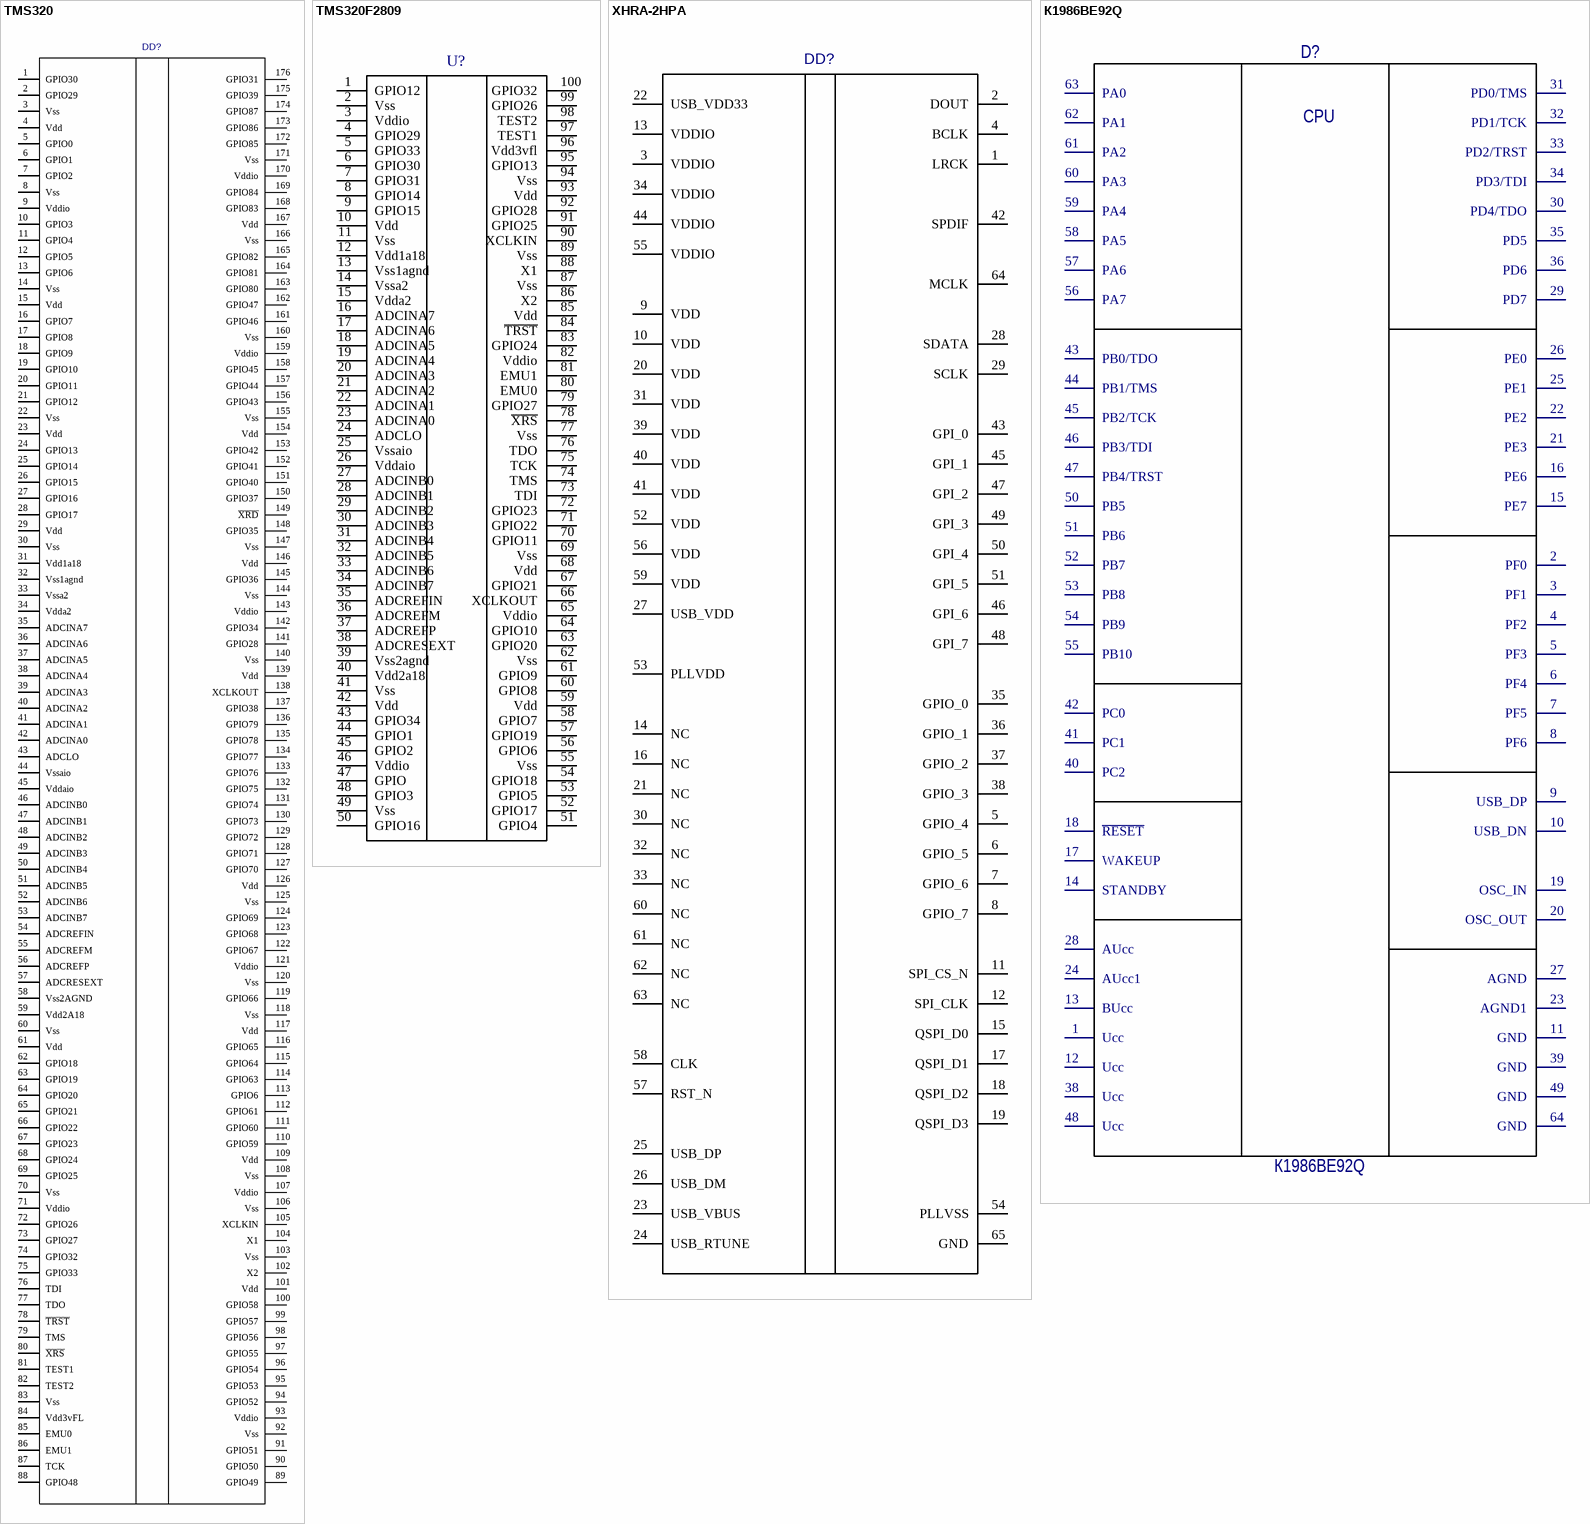
[diagram p13: symbols TMS320 to К1986ВЕ92Q]

## TMS320
designator DD?  (value not drawn)
Value: *
footprint TMS320
pins: 1 GPIO30, 2 GPIO29, 3 Vss, 4 Vdd, 5 GPIO0, 6 GPIO1, 7 GPIO2, 8 Vss, 9 Vddio, 10 GPIO3, 11 GPIO4, 12 GPIO5, 13 GPIO6, 14 Vss, 15 Vdd, 16 GPIO7, 17 GPIO8, 18 GPIO9, 19 GPIO10, 20 GPIO11, 21 GPIO12, 22 Vss, 23 Vdd, 24 GPIO13, 25 GPIO14, 26 GPIO15, 27 GPIO16, 28 GPIO17, 29 Vdd, 30 Vss, 31 Vdd1a18, 32 Vss1agnd, 33 Vssa2, 34 Vdda2, 35 ADCINA7, 36 ADCINA6, 37 ADCINA5, 38 ADCINA4, 39 ADCINA3, 40 ADCINA2, 41 ADCINA1, 42 ADCINA0, 43 ADCLO, 44 Vssaio, 45 Vddaio, 46 ADCINB0, 47 ADCINB1, 48 ADCINB2, 49 ADCINB3, 50 ADCINB4, 51 ADCINB5, 52 ADCINB6, 53 ADCINB7, 54 ADCREFIN, 55 ADCREFM, 56 ADCREFP, 57 ADCRESEXT, 58 Vss2AGND, 59 Vdd2A18, 60 Vss, 61 Vdd, 62 GPIO18, 63 GPIO19, 64 GPIO20, 65 GPIO21, 66 GPIO22, 67 GPIO23, 68 GPIO24, 69 GPIO25, 70 Vss, 71 Vddio, 72 GPIO26, 73 GPIO27, 74 GPIO32, 75 GPIO33, 76 TDI, 77 TDO, 78 ~{TRST}, 79 TMS, 80 ~{XRS}, 81 TEST1, 82 TEST2, 83 Vss, 84 Vdd3vFL, 85 EMU0, 86 EMU1, 87 TCK, 88 GPIO48, 89 GPIO49, 90 GPIO50, 91 GPIO51, 92 Vss, 93 Vddio, 94 GPIO52, 95 GPIO53, 96 GPIO54, 97 GPIO55, 98 GPIO56, 99 GPIO57, 100 GPIO58, 101 Vdd, 102 X2, 103 Vss, 104 X1, 105 XCLKIN, 106 Vss, 107 Vddio, 108 Vss, 109 Vdd, 110 GPIO59, 111 GPIO60, 112 GPIO61, 113 GPIO6, 114 GPIO63, 115 GPIO64, 116 GPIO65, 117 Vdd, 118 Vss, 119 GPIO66, 120 Vss, 121 Vddio, 122 GPIO67, 123 GPIO68, 124 GPIO69, 125 Vss, 126 Vdd, 127 GPIO70, 128 GPIO71, 129 GPIO72, 130 GPIO73, 131 GPIO74, 132 GPIO75, 133 GPIO76, 134 GPIO77, 135 GPIO78, 136 GPIO79, 137 GPIO38, 138 XCLKOUT, 139 Vdd, 140 Vss, 141 GPIO28, 142 GPIO34, 143 Vddio, 144 Vss, 145 GPIO36, 146 Vdd, 147 Vss, 148 GPIO35, 149 ~{XRD}, 150 GPIO37, 151 GPIO40, 152 GPIO41, 153 GPIO42, 154 Vdd, 155 Vss, 156 GPIO43, 157 GPIO44, 158 GPIO45, 159 Vddio, 160 Vss, 161 GPIO46, 162 GPIO47, 163 GPIO80, 164 GPIO81, 165 GPIO82, 166 Vss, 167 Vdd, 168 GPIO83, 169 GPIO84, 170 Vddio, 171 Vss, 172 GPIO85, 173 GPIO86, 174 GPIO87, 175 GPIO39, 176 GPIO31

## TMS320F2809
designator U?  (value not drawn)
Value: *
pins: 1 GPIO12, 2 Vss, 3 Vddio, 4 GPIO29, 5 GPIO33, 6 GPIO30, 7 GPIO31, 8 GPIO14, 9 GPIO15, 10 Vdd, 11 Vss, 12 Vdd1a18, 13 Vss1agnd, 14 Vssa2, 15 Vdda2, 16 ADCINA7, 17 ADCINA6, 18 ADCINA5, 19 ADCINA4, 20 ADCINA3, 21 ADCINA2, 22 ADCINA1, 23 ADCINA0, 24 ADCLO, 25 Vssaio, 26 Vddaio, 27 ADCINB0, 28 ADCINB1, 29 ADCINB2, 30 ADCINB3, 31 ADCINB4, 32 ADCINB5, 33 ADCINB6, 34 ADCINB7, 35 ADCREFIN, 36 ADCREFM, 37 ADCREFP, 38 ADCRESEXT, 39 Vss2agnd, 40 Vdd2a18, 41 Vss, 42 Vdd, 43 GPIO34, 44 GPIO1, 45 GPIO2, 46 Vddio, 47 GPIO, 48 GPIO3, 49 Vss, 50 GPIO16, 51 GPIO4, 52 GPIO17, 53 GPIO5, 54 GPIO18, 55 Vss, 56 GPIO6, 57 GPIO19, 58 GPIO7, 59 Vdd, 60 GPIO8, 61 GPIO9, 62 Vss, 63 GPIO20, 64 GPIO10, 65 Vddio, 66 XCLKOUT, 67 GPIO21, 68 Vdd, 69 Vss, 70 GPIO11, 71 GPIO22, 72 GPIO23, 73 TDI, 74 TMS, 75 TCK, 76 TDO, 77 Vss, 78 ~{XRS}, 79 GPIO27, 80 EMU0, 81 EMU1, 82 Vddio, 83 GPIO24, 84 ~{TRST}, 85 Vdd, 86 X2, 87 Vss, 88 X1, 89 Vss, 90 XCLKIN, 91 GPIO25, 92 GPIO28, 93 Vdd, 94 Vss, 95 GPIO13, 96 Vdd3vfl, 97 TEST1, 98 TEST2, 99 GPIO26, 100 GPIO32

## XHRA-2HPA
designator DD?  (value not drawn)
Value: *
footprint LQFP64 + TERMO
pins: 1 LRCK, 2 DOUT, 3 VDDIO, 4 BCLK, 5 GPIO_4, 6 GPIO_5, 7 GPIO_6, 8 GPIO_7, 9 VDD, 10 VDD, 11 SPI_CS_N, 12 SPI_CLK, 13 VDDIO, 14 NC, 15 QSPI_D0, 16 NC, 17 QSPI_D1, 18 QSPI_D2, 19 QSPI_D3, 20 VDD, 21 NC, 22 USB_VDD33, 23 USB_VBUS, 24 USB_RTUNE, 25 USB_DP, 26 USB_DM, 27 USB_VDD, 28 SDATA, 29 SCLK, 30 NC, 31 VDD, 32 NC, 33 NC, 34 VDDIO, 35 GPIO_0, 36 GPIO_1, 37 GPIO_2, 38 GPIO_3, 39 VDD, 40 VDD, 41 VDD, 42 SPDIF, 43 GPI_0, 44 VDDIO, 45 GPI_1, 46 GPI_6, 47 GPI_2, 48 GPI_7, 49 GPI_3, 50 GPI_4, 51 GPI_5, 52 VDD, 53 PLLVDD, 54 PLLVSS, 55 VDDIO, 56 VDD, 57 RST_N, 58 CLK, 59 VDD, 60 NC, 61 NC, 62 NC, 63 NC, 64 MCLK, 65 GND

## К1986ВЕ92Q
designator D?
Cell: *; Manufacturer: *; ManufacturerPartNumber: К1986ВЕ92Q; Value: *; Tolerance: *; Current: *; Voltage: *; Power: *
footprint LQFP64
pins: 1 Ucc, 2 PF0, 3 PF1, 4 PF2, 5 PF3, 6 PF4, 7 PF5, 8 PF6, 9 USB_DP, 10 USB_DN, 11 GND, 12 Ucc, 13 BUcc, 14 STANDBY, 15 PE7, 16 PE6, 17 WAKEUP, 18 ~{RESET}, 19 OSC_IN, 20 OSC_OUT, 21 PE3, 22 PE2, 23 AGND1, 24 AUcc1, 25 PE1, 26 PE0, 27 AGND, 28 AUcc, 29 PD7, 30 PD4/TDO, 31 PD0/TMS, 32 PD1/TCK, 33 PD2/TRST, 34 PD3/TDI, 35 PD5, 36 PD6, 38 Ucc, 39 GND, 40 PC2, 41 PC1, 42 PC0, 43 PB0/TDO, 44 PB1/TMS, 45 PB2/TCK, 46 PB3/TDI, 47 PB4/TRST, 48 Ucc, 49 GND, 50 PB5, 51 PB6, 52 PB7, 53 PB8, 54 PB9, 55 PB10, 56 PA7, 57 PA6, 58 PA5, 59 PA4, 60 PA3, 61 PA2, 62 PA1, 63 PA0, 64 GND
text: CPU